# Altium integrated library Motorola Microcontroller 8-Bit.IntLib: 909 symbols (part 6 of 31)
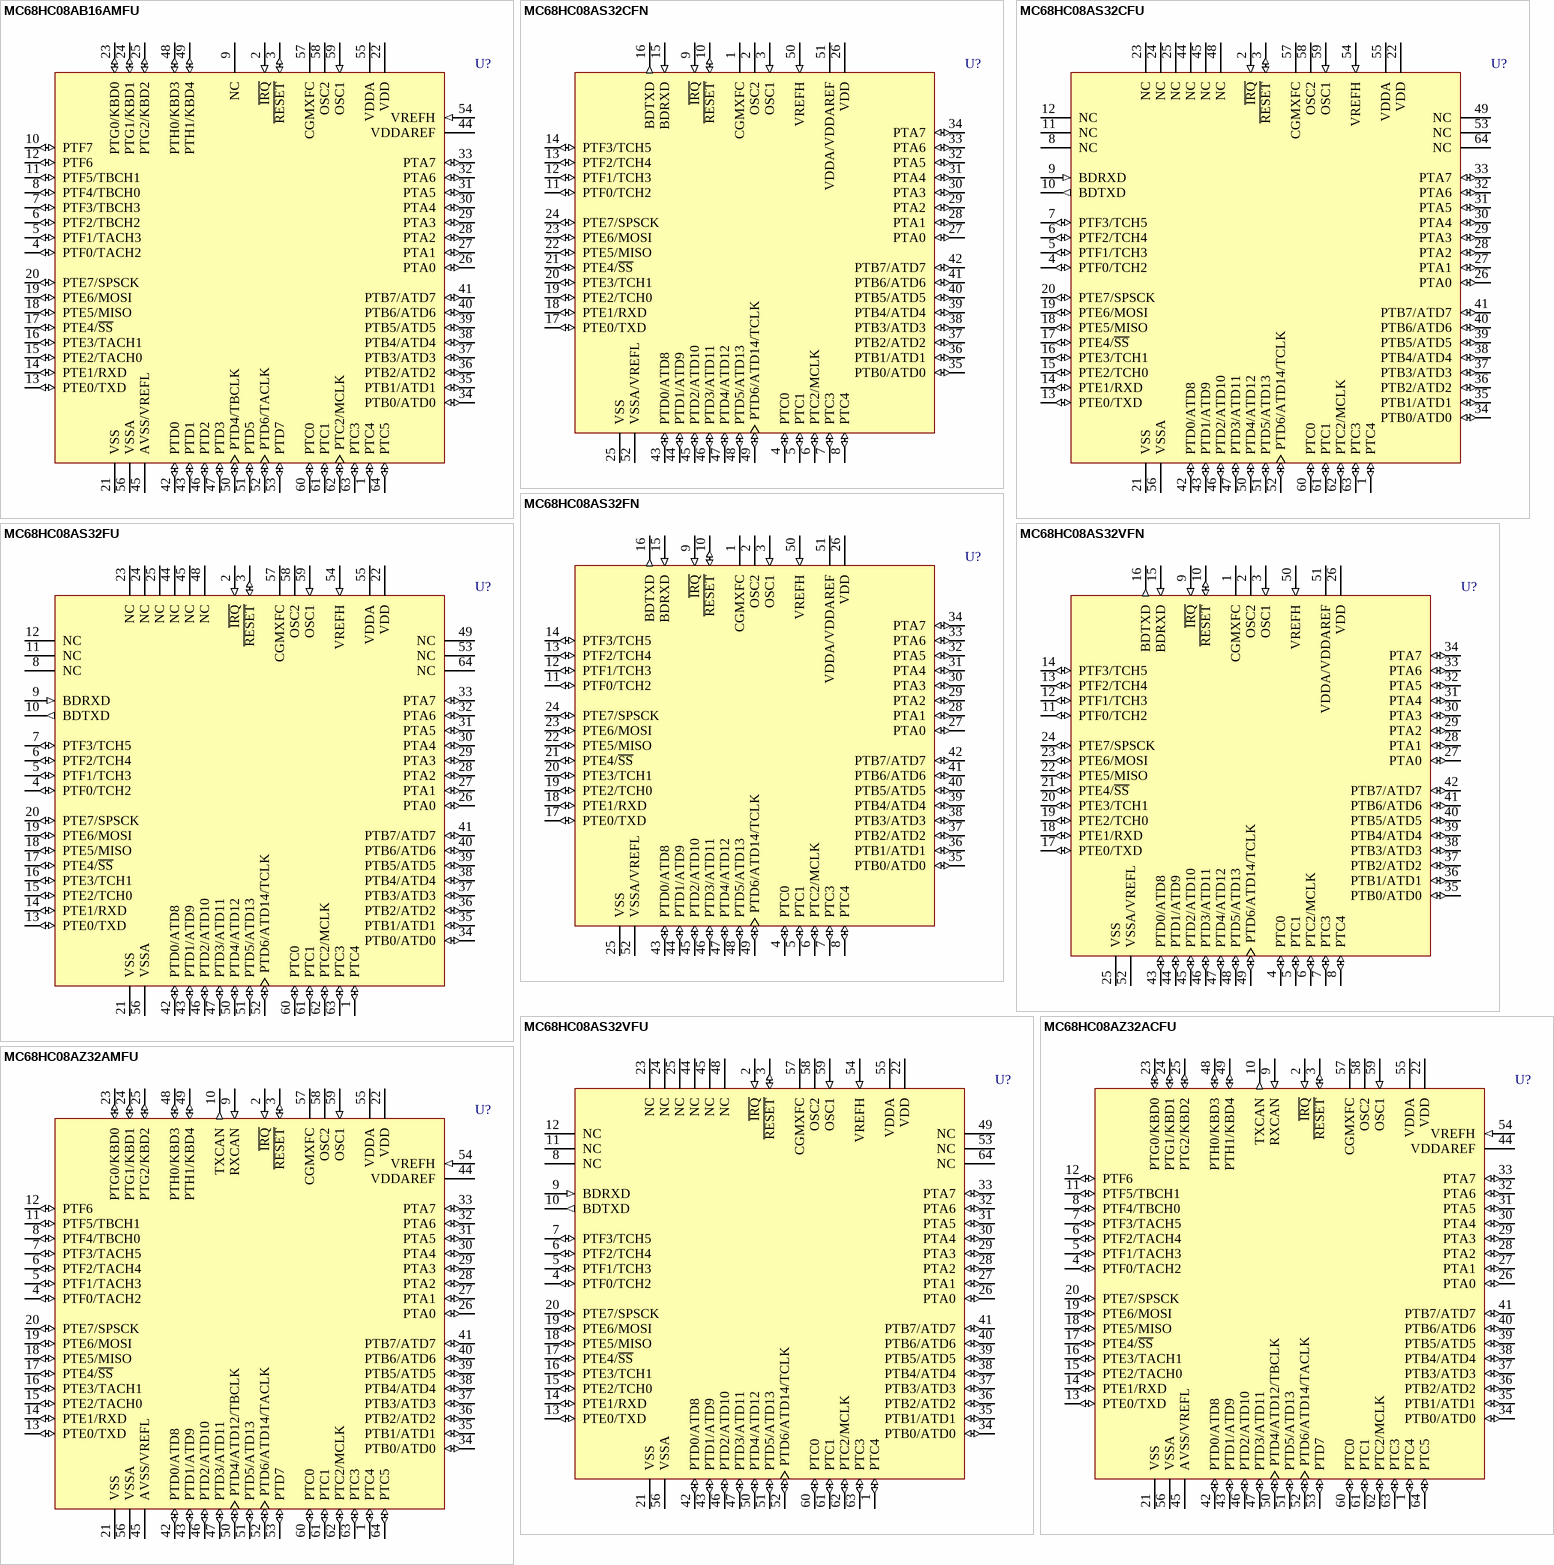
[diagram p118: symbols MC68HC08AB16AMFU to MC68HC08AZ32AMFU]

## MC68HC08AS32FN
designator U?
8-Bit Microcontroller; Published: 17-Jan-2003; LatestRevisionDate: 13-Apr-2006; LatestRevisionNote: IPC-7351 Footprint Added.; DatasheetVersion: Rev 3, 1997; PackageVersion: rev3, 1997; PackageReference: 778-02; Publisher: Altium Limited; PackageDescription: 52-Pin Plastic Leaded Chip Carrier 1.27 mm Pitch; ComponentLink1Description: Manufacturer Link; ComponentLink1URL: http://www.freescale.com/
footprint 778-02_N (Leaded Chip Carrier, 52-Leads, Body 19x19mm, Pitch 1.27mm, IPC Medium Density)
footprint 778-02_L (Leaded Chip Carrier, 52-Leads, Body 19x19mm, Pitch 1.27mm, IPC High Density)
footprint 778-02_M (Leaded Chip Carrier, 52-Leads, Body 19x19mm, Pitch 1.27mm, IPC Low Density)
3D model MC68HC08-778-02 (52-Pin Plastic Leaded Chip Carrier 1.27 mm Pitch)
pins: 1 CGMXFC, 2 OSC2, 3 OSC1 (in), 4 PTC0 (io), 5 PTC1 (io), 6 PTC2/MCLK (io), 7 PTC3 (io), 8 PTC4 (io), 9 ~{IRQ} (in), 10 ~{RESET} (io), 11 PTF0/TCH2 (io), 12 PTF1/TCH3 (io), 13 PTF2/TCH4 (io), 14 PTF3/TCH5 (io), 15 BDRXD (in), 16 BDTXD (out), 17 PTE0/TXD (io), 18 PTE1/RXD (io), 19 PTE2/TCH0 (io), 20 PTE3/TCH1 (io), 21 PTE4/~{SS} (io), 22 PTE5/MISO (io), 23 PTE6/MOSI (io), 24 PTE7/SPSCK (io), 25 VSS (power), 26 VDD (power), 27 PTA0 (io), 28 PTA1 (io), 29 PTA2 (io), 30 PTA3 (io), 31 PTA4 (io), 32 PTA5 (io), 33 PTA6 (io), 34 PTA7 (io), 35 PTB0/ATD0 (io), 36 PTB1/ATD1 (io), 37 PTB2/ATD2 (io), 38 PTB3/ATD3 (io), 39 PTB4/ATD4 (io), 40 PTB5/ATD5 (io), 41 PTB6/ATD6 (io), 42 PTB7/ATD7 (io), 43 PTD0/ATD8 (io), 44 PTD1/ATD9 (io), 45 PTD2/ATD10 (io), 46 PTD3/ATD11 (io), 47 PTD4/ATD12 (io), 48 PTD5/ATD13 (io), 49 PTD6/ATD14/TCLK (io), 50 VREFH (in), 51 VDDA/VDDAREF (power), 52 VSSA/VREFL (power)

## MC68HC08AS32FU
designator U?
8-Bit Microcontroller; Published: 17-Jan-2003; LatestRevisionDate: 13-Apr-2006; LatestRevisionNote: IPC-7351 Footprint Added.; DatasheetVersion: Rev 3, 1997; PackageVersion: rev2, 2000; PackageReference: 840B-01; Publisher: Altium Limited; PackageDescription: 64-Pin Quad Flat Pack 0.8 mm Pitch; Code_IPC: QFP80P1720X1720-64; ComponentLink1Description: Manufacturer Link; ComponentLink1URL: http://www.freescale.com/
footprint 840B-01_N (QFP, 64-Leads, Body 14x14mm, Pitch 0.8mm, IPC Medium Density)
footprint 840B-01_L (QFP, 64-Leads, Body 14x14mm, Pitch 0.8mm, IPC High Density)
footprint 840B-01_M (QFP, 64-Leads, Body 14x14mm, Pitch 0.8mm, IPC Low Density)
3D model MC68HC08-840B-01 (64-Pin Quad Flat Pack 0.8 mm Pitch)
pins: 1 PTC4 (io), 2 ~{IRQ} (in), 3 ~{RESET} (io), 4 PTF0/TCH2 (io), 5 PTF1/TCH3 (io), 6 PTF2/TCH4 (io), 7 PTF3/TCH5 (io), 8 NC, 9 BDRXD (in), 10 BDTXD (out), 11 NC, 12 NC, 13 PTE0/TXD (io), 14 PTE1/RXD (io), 15 PTE2/TCH0 (io), 16 PTE3/TCH1 (io), 17 PTE4/~{SS} (io), 18 PTE5/MISO (io), 19 PTE6/MOSI (io), 20 PTE7/SPSCK (io), 21 VSS (power), 22 VDD (power), 23 NC, 24 NC, 25 NC, 26 PTA0 (io), 27 PTA1 (io), 28 PTA2 (io), 29 PTA3 (io), 30 PTA4 (io), 31 PTA5 (io), 32 PTA6 (io), 33 PTA7 (io), 34 PTB0/ATD0 (io), 35 PTB1/ATD1 (io), 36 PTB2/ATD2 (io), 37 PTB3/ATD3 (io), 38 PTB4/ATD4 (io), 39 PTB5/ATD5 (io), 40 PTB6/ATD6 (io), 41 PTB7/ATD7 (io), 42 PTD0/ATD8 (io), 43 PTD1/ATD9 (io), 44 NC, 45 NC, 46 PTD2/ATD10 (io), 47 PTD3/ATD11 (io), 48 NC, 49 NC, 50 PTD4/ATD12 (io), 51 PTD5/ATD13 (io), 52 PTD6/ATD14/TCLK (io), 53 NC, 54 VREFH (in), 55 VDDA (power), 56 VSSA (power), 57 CGMXFC, 58 OSC2, 59 OSC1 (in), 60 PTC0 (io), 61 PTC1 (io), 62 PTC2/MCLK (io), 63 PTC3 (io), 64 NC

## MC68HC08AS32VFN
designator U?
8-Bit Microcontroller; Published: 17-Jan-2003; LatestRevisionDate: 13-Apr-2006; LatestRevisionNote: IPC-7351 Footprint Added.; DatasheetVersion: Rev 3, 1997; PackageVersion: rev3, 1997; PackageReference: 778-02; Publisher: Altium Limited; PackageDescription: 52-Pin Plastic Leaded Chip Carrier 1.27 mm Pitch; ComponentLink1Description: Manufacturer Link; ComponentLink1URL: http://www.freescale.com/
footprint 778-02_N (Leaded Chip Carrier, 52-Leads, Body 19x19mm, Pitch 1.27mm, IPC Medium Density)
footprint 778-02_L (Leaded Chip Carrier, 52-Leads, Body 19x19mm, Pitch 1.27mm, IPC High Density)
footprint 778-02_M (Leaded Chip Carrier, 52-Leads, Body 19x19mm, Pitch 1.27mm, IPC Low Density)
3D model MC68HC08-778-02 (52-Pin Plastic Leaded Chip Carrier 1.27 mm Pitch)
pins: 1 CGMXFC, 2 OSC2, 3 OSC1 (in), 4 PTC0 (io), 5 PTC1 (io), 6 PTC2/MCLK (io), 7 PTC3 (io), 8 PTC4 (io), 9 ~{IRQ} (in), 10 ~{RESET} (io), 11 PTF0/TCH2 (io), 12 PTF1/TCH3 (io), 13 PTF2/TCH4 (io), 14 PTF3/TCH5 (io), 15 BDRXD (in), 16 BDTXD (out), 17 PTE0/TXD (io), 18 PTE1/RXD (io), 19 PTE2/TCH0 (io), 20 PTE3/TCH1 (io), 21 PTE4/~{SS} (io), 22 PTE5/MISO (io), 23 PTE6/MOSI (io), 24 PTE7/SPSCK (io), 25 VSS (power), 26 VDD (power), 27 PTA0 (io), 28 PTA1 (io), 29 PTA2 (io), 30 PTA3 (io), 31 PTA4 (io), 32 PTA5 (io), 33 PTA6 (io), 34 PTA7 (io), 35 PTB0/ATD0 (io), 36 PTB1/ATD1 (io), 37 PTB2/ATD2 (io), 38 PTB3/ATD3 (io), 39 PTB4/ATD4 (io), 40 PTB5/ATD5 (io), 41 PTB6/ATD6 (io), 42 PTB7/ATD7 (io), 43 PTD0/ATD8 (io), 44 PTD1/ATD9 (io), 45 PTD2/ATD10 (io), 46 PTD3/ATD11 (io), 47 PTD4/ATD12 (io), 48 PTD5/ATD13 (io), 49 PTD6/ATD14/TCLK (io), 50 VREFH (in), 51 VDDA/VDDAREF (power), 52 VSSA/VREFL (power)

## MC68HC08AS32VFU
designator U?
8-Bit Microcontroller; Published: 17-Jan-2003; LatestRevisionDate: 13-Apr-2006; LatestRevisionNote: IPC-7351 Footprint Added.; DatasheetVersion: Rev 3, 1997; PackageVersion: rev2, 2000; PackageReference: 840B-01; Publisher: Altium Limited; PackageDescription: 64-Pin Quad Flat Pack 0.8 mm Pitch; Code_IPC: QFP80P1720X1720-64; ComponentLink1Description: Manufacturer Link; ComponentLink1URL: http://www.freescale.com/
footprint 840B-01_N (QFP, 64-Leads, Body 14x14mm, Pitch 0.8mm, IPC Medium Density)
footprint 840B-01_L (QFP, 64-Leads, Body 14x14mm, Pitch 0.8mm, IPC High Density)
footprint 840B-01_M (QFP, 64-Leads, Body 14x14mm, Pitch 0.8mm, IPC Low Density)
3D model MC68HC08-840B-01 (64-Pin Quad Flat Pack 0.8 mm Pitch)
pins: 1 PTC4 (io), 2 ~{IRQ} (in), 3 ~{RESET} (io), 4 PTF0/TCH2 (io), 5 PTF1/TCH3 (io), 6 PTF2/TCH4 (io), 7 PTF3/TCH5 (io), 8 NC, 9 BDRXD (in), 10 BDTXD (out), 11 NC, 12 NC, 13 PTE0/TXD (io), 14 PTE1/RXD (io), 15 PTE2/TCH0 (io), 16 PTE3/TCH1 (io), 17 PTE4/~{SS} (io), 18 PTE5/MISO (io), 19 PTE6/MOSI (io), 20 PTE7/SPSCK (io), 21 VSS (power), 22 VDD (power), 23 NC, 24 NC, 25 NC, 26 PTA0 (io), 27 PTA1 (io), 28 PTA2 (io), 29 PTA3 (io), 30 PTA4 (io), 31 PTA5 (io), 32 PTA6 (io), 33 PTA7 (io), 34 PTB0/ATD0 (io), 35 PTB1/ATD1 (io), 36 PTB2/ATD2 (io), 37 PTB3/ATD3 (io), 38 PTB4/ATD4 (io), 39 PTB5/ATD5 (io), 40 PTB6/ATD6 (io), 41 PTB7/ATD7 (io), 42 PTD0/ATD8 (io), 43 PTD1/ATD9 (io), 44 NC, 45 NC, 46 PTD2/ATD10 (io), 47 PTD3/ATD11 (io), 48 NC, 49 NC, 50 PTD4/ATD12 (io), 51 PTD5/ATD13 (io), 52 PTD6/ATD14/TCLK (io), 53 NC, 54 VREFH (in), 55 VDDA (power), 56 VSSA (power), 57 CGMXFC, 58 OSC2, 59 OSC1 (in), 60 PTC0 (io), 61 PTC1 (io), 62 PTC2/MCLK (io), 63 PTC3 (io), 64 NC

## MC68HC08AZ32ACFU
designator U?
8-Bit Microcontroller; Published: 17-Jan-2003; LatestRevisionDate: 13-Apr-2006; LatestRevisionNote: IPC-7351 Footprint Added.; DatasheetVersion: Rev 1, 2001; PackageVersion: rev2, 2000; PackageReference: 840B-01; Publisher: Altium Limited; PackageDescription: 64-Pin Quad Flat Pack 0.8 mm Pitch; Code_IPC: QFP80P1720X1720-64; ComponentLink1Description: Manufacturer Link; ComponentLink1URL: http://www.freescale.com/
footprint 840B-01_N (QFP, 64-Leads, Body 14x14mm, Pitch 0.8mm, IPC Medium Density)
footprint 840B-01_L (QFP, 64-Leads, Body 14x14mm, Pitch 0.8mm, IPC High Density)
footprint 840B-01_M (QFP, 64-Leads, Body 14x14mm, Pitch 0.8mm, IPC Low Density)
3D model MC68HC08-840B-01 (64-Pin Quad Flat Pack 0.8 mm Pitch)
pins: 1 PTC4 (io), 2 ~{IRQ} (in), 3 ~{RESET} (io), 4 PTF0/TACH2 (io), 5 PTF1/TACH3 (io), 6 PTF2/TACH4 (io), 7 PTF3/TACH5 (io), 8 PTF4/TBCH0 (io), 9 RXCAN (in), 10 TXCAN (out), 11 PTF5/TBCH1 (io), 12 PTF6 (io), 13 PTE0/TXD (io), 14 PTE1/RXD (io), 15 PTE2/TACH0 (io), 16 PTE3/TACH1 (io), 17 PTE4/~{SS} (io), 18 PTE5/MISO (io), 19 PTE6/MOSI (io), 20 PTE7/SPSCK (io), 21 VSS (power), 22 VDD (power), 23 PTG0/KBD0 (io), 24 PTG1/KBD1 (io), 25 PTG2/KBD2 (io), 26 PTA0 (io), 27 PTA1 (io), 28 PTA2 (io), 29 PTA3 (io), 30 PTA4 (io), 31 PTA5 (io), 32 PTA6 (io), 33 PTA7 (io), 34 PTB0/ATD0 (io), 35 PTB1/ATD1 (io), 36 PTB2/ATD2 (io), 37 PTB3/ATD3 (io), 38 PTB4/ATD4 (io), 39 PTB5/ATD5 (io), 40 PTB6/ATD6 (io), 41 PTB7/ATD7 (io), 42 PTD0/ATD8 (io), 43 PTD1/ATD9 (io), 44 VDDAREF (power), 45 AVSS/VREFL (power), 46 PTD2/ATD10 (io), 47 PTD3/ATD11 (io), 48 PTH0/KBD3 (io), 49 PTH1/KBD4 (io), 50 PTD4/ATD12/TBCLK (io), 51 PTD5/ATD13 (io), 52 PTD6/ATD14/TACLK (io), 53 PTD7 (io), 54 VREFH (in), 55 VDDA (power), 56 VSSA (power), 57 CGMXFC, 58 OSC2, 59 OSC1 (in), 60 PTC0 (io), 61 PTC1 (io), 62 PTC2/MCLK (io), 63 PTC3 (io), 64 PTC5 (io)

## MC68HC08AZ32AMFU
designator U?
8-Bit Microcontroller; Published: 17-Jan-2003; LatestRevisionDate: 13-Apr-2006; LatestRevisionNote: IPC-7351 Footprint Added.; DatasheetVersion: Rev 1, 2001; PackageVersion: rev2, 2000; PackageReference: 840B-01; Publisher: Altium Limited; PackageDescription: 64-Pin Quad Flat Pack 0.8 mm Pitch; Code_IPC: QFP80P1720X1720-64; ComponentLink1Description: Manufacturer Link; ComponentLink1URL: http://www.freescale.com/
footprint 840B-01_N (QFP, 64-Leads, Body 14x14mm, Pitch 0.8mm, IPC Medium Density)
footprint 840B-01_L (QFP, 64-Leads, Body 14x14mm, Pitch 0.8mm, IPC High Density)
footprint 840B-01_M (QFP, 64-Leads, Body 14x14mm, Pitch 0.8mm, IPC Low Density)
3D model MC68HC08-840B-01 (64-Pin Quad Flat Pack 0.8 mm Pitch)
pins: 1 PTC4 (io), 2 ~{IRQ} (in), 3 ~{RESET} (io), 4 PTF0/TACH2 (io), 5 PTF1/TACH3 (io), 6 PTF2/TACH4 (io), 7 PTF3/TACH5 (io), 8 PTF4/TBCH0 (io), 9 RXCAN (in), 10 TXCAN (out), 11 PTF5/TBCH1 (io), 12 PTF6 (io), 13 PTE0/TXD (io), 14 PTE1/RXD (io), 15 PTE2/TACH0 (io), 16 PTE3/TACH1 (io), 17 PTE4/~{SS} (io), 18 PTE5/MISO (io), 19 PTE6/MOSI (io), 20 PTE7/SPSCK (io), 21 VSS (power), 22 VDD (power), 23 PTG0/KBD0 (io), 24 PTG1/KBD1 (io), 25 PTG2/KBD2 (io), 26 PTA0 (io), 27 PTA1 (io), 28 PTA2 (io), 29 PTA3 (io), 30 PTA4 (io), 31 PTA5 (io), 32 PTA6 (io), 33 PTA7 (io), 34 PTB0/ATD0 (io), 35 PTB1/ATD1 (io), 36 PTB2/ATD2 (io), 37 PTB3/ATD3 (io), 38 PTB4/ATD4 (io), 39 PTB5/ATD5 (io), 40 PTB6/ATD6 (io), 41 PTB7/ATD7 (io), 42 PTD0/ATD8 (io), 43 PTD1/ATD9 (io), 44 VDDAREF (power), 45 AVSS/VREFL (power), 46 PTD2/ATD10 (io), 47 PTD3/ATD11 (io), 48 PTH0/KBD3 (io), 49 PTH1/KBD4 (io), 50 PTD4/ATD12/TBCLK (io), 51 PTD5/ATD13 (io), 52 PTD6/ATD14/TACLK (io), 53 PTD7 (io), 54 VREFH (in), 55 VDDA (power), 56 VSSA (power), 57 CGMXFC, 58 OSC2, 59 OSC1 (in), 60 PTC0 (io), 61 PTC1 (io), 62 PTC2/MCLK (io), 63 PTC3 (io), 64 PTC5 (io)

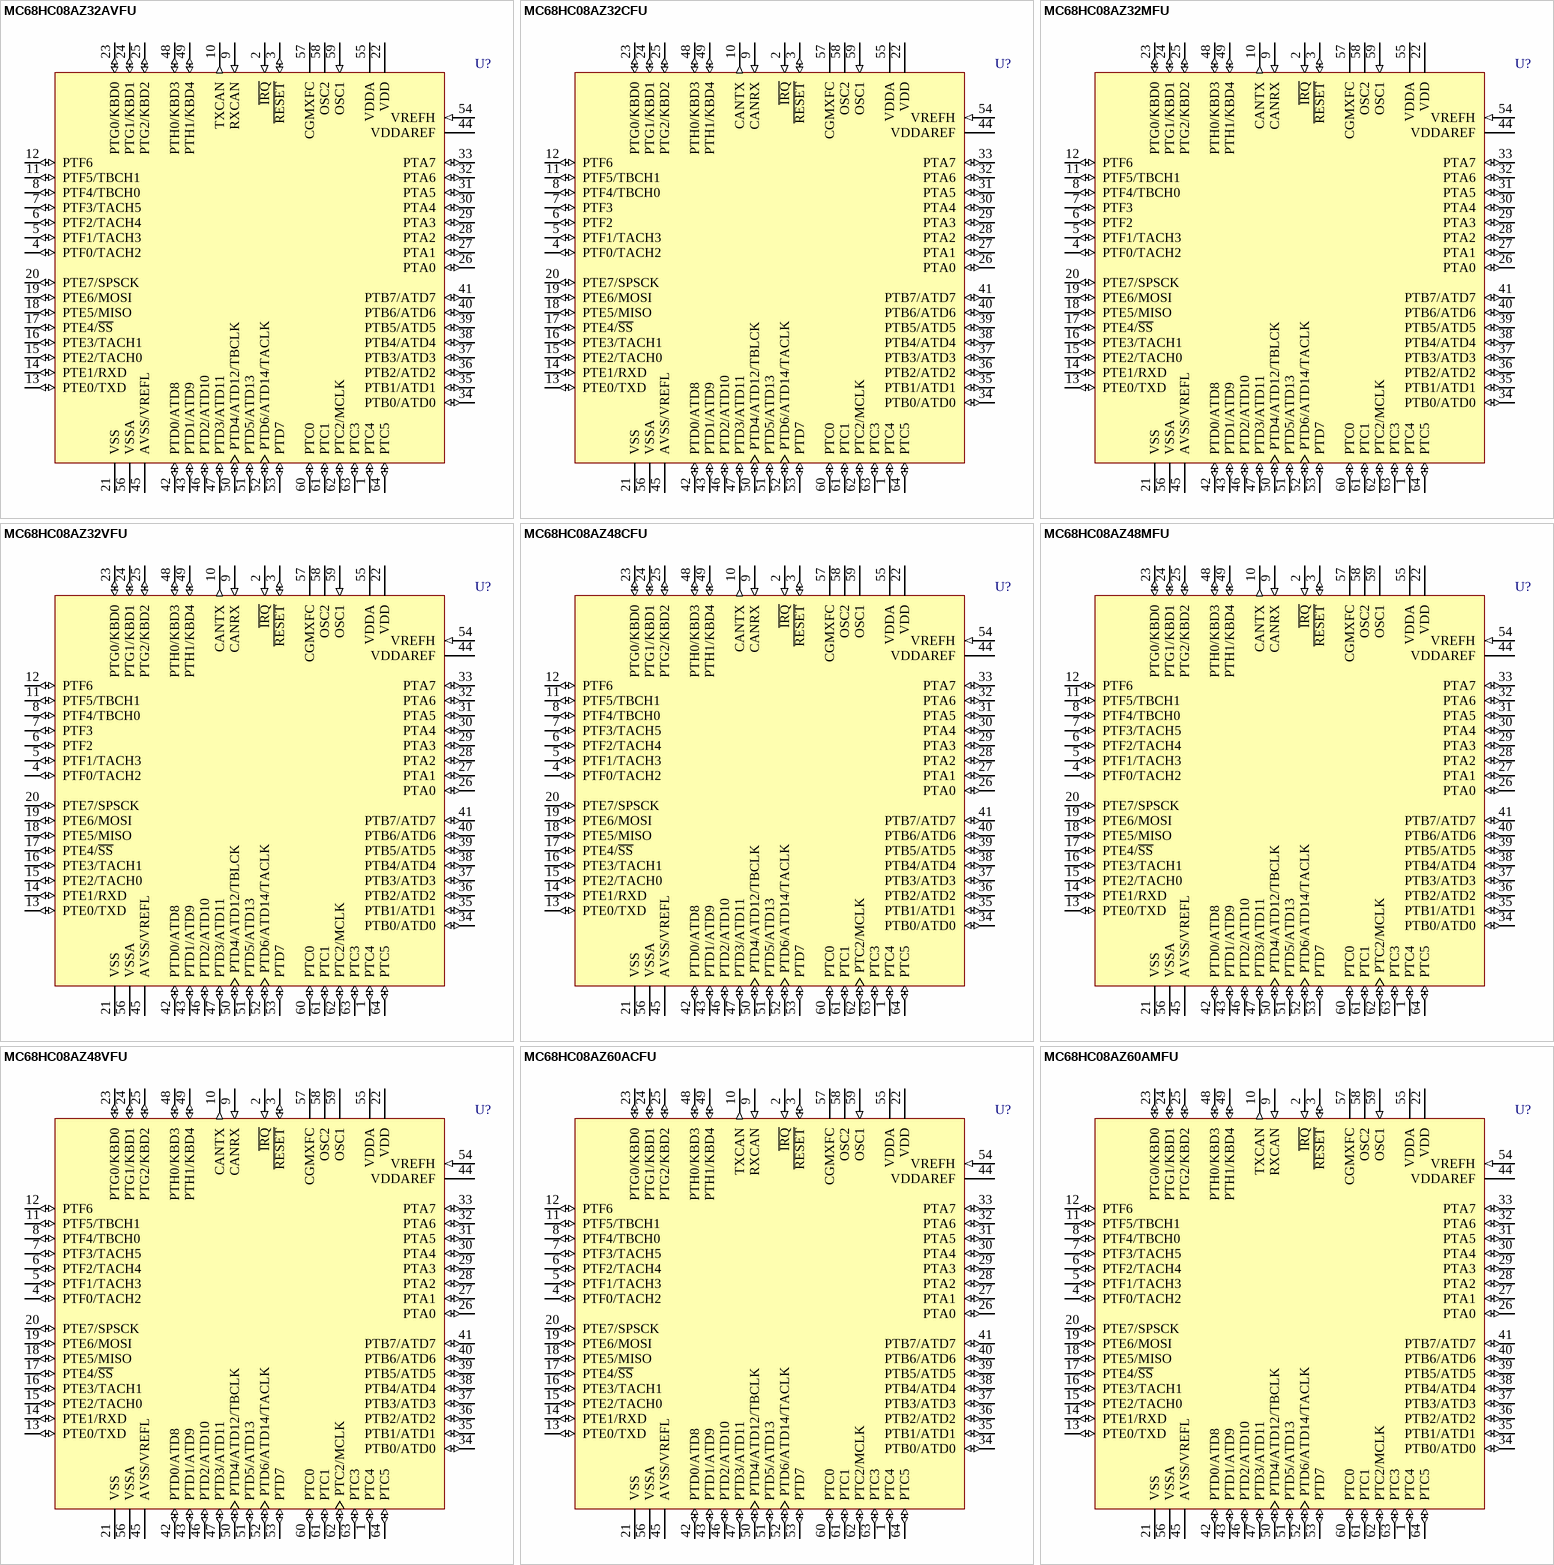
[diagram p15: symbols MC68HC08AZ32AVFU to MC68HC08AZ60AMFU]

## MC68HC08AZ32AVFU
designator U?
8-Bit Microcontroller; Published: 17-Jan-2003; LatestRevisionDate: 13-Apr-2006; LatestRevisionNote: IPC-7351 Footprint Added.; DatasheetVersion: Rev 1, 2001; PackageVersion: rev2, 2000; PackageReference: 840B-01; Publisher: Altium Limited; PackageDescription: 64-Pin Quad Flat Pack 0.8 mm Pitch; Code_IPC: QFP80P1720X1720-64; ComponentLink1Description: Manufacturer Link; ComponentLink1URL: http://www.freescale.com/
footprint 840B-01_N (QFP, 64-Leads, Body 14x14mm, Pitch 0.8mm, IPC Medium Density)
footprint 840B-01_L (QFP, 64-Leads, Body 14x14mm, Pitch 0.8mm, IPC High Density)
footprint 840B-01_M (QFP, 64-Leads, Body 14x14mm, Pitch 0.8mm, IPC Low Density)
3D model MC68HC08-840B-01 (64-Pin Quad Flat Pack 0.8 mm Pitch)
pins: 1 PTC4 (io), 2 ~{IRQ} (in), 3 ~{RESET} (io), 4 PTF0/TACH2 (io), 5 PTF1/TACH3 (io), 6 PTF2/TACH4 (io), 7 PTF3/TACH5 (io), 8 PTF4/TBCH0 (io), 9 RXCAN (in), 10 TXCAN (out), 11 PTF5/TBCH1 (io), 12 PTF6 (io), 13 PTE0/TXD (io), 14 PTE1/RXD (io), 15 PTE2/TACH0 (io), 16 PTE3/TACH1 (io), 17 PTE4/~{SS} (io), 18 PTE5/MISO (io), 19 PTE6/MOSI (io), 20 PTE7/SPSCK (io), 21 VSS (power), 22 VDD (power), 23 PTG0/KBD0 (io), 24 PTG1/KBD1 (io), 25 PTG2/KBD2 (io), 26 PTA0 (io), 27 PTA1 (io), 28 PTA2 (io), 29 PTA3 (io), 30 PTA4 (io), 31 PTA5 (io), 32 PTA6 (io), 33 PTA7 (io), 34 PTB0/ATD0 (io), 35 PTB1/ATD1 (io), 36 PTB2/ATD2 (io), 37 PTB3/ATD3 (io), 38 PTB4/ATD4 (io), 39 PTB5/ATD5 (io), 40 PTB6/ATD6 (io), 41 PTB7/ATD7 (io), 42 PTD0/ATD8 (io), 43 PTD1/ATD9 (io), 44 VDDAREF (power), 45 AVSS/VREFL (power), 46 PTD2/ATD10 (io), 47 PTD3/ATD11 (io), 48 PTH0/KBD3 (io), 49 PTH1/KBD4 (io), 50 PTD4/ATD12/TBCLK (io), 51 PTD5/ATD13 (io), 52 PTD6/ATD14/TACLK (io), 53 PTD7 (io), 54 VREFH (in), 55 VDDA (power), 56 VSSA (power), 57 CGMXFC, 58 OSC2, 59 OSC1 (in), 60 PTC0 (io), 61 PTC1 (io), 62 PTC2/MCLK (io), 63 PTC3 (io), 64 PTC5 (io)

## MC68HC08AZ32CFU
designator U?
8-Bit Microcontroller; Published: 17-Jan-2003; LatestRevisionDate: 13-Apr-2006; LatestRevisionNote: IPC-7351 Footprint Added.; DatasheetVersion: 31-Jan-2000; PackageVersion: rev2, 2000; PackageReference: 840B-01; Publisher: Altium Limited; PackageDescription: 64-Pin Quad Flat Pack 0.8 mm Pitch; Code_IPC: QFP80P1720X1720-64; ComponentLink1Description: Manufacturer Link; ComponentLink1URL: http://www.freescale.com/; ComponentLink2Description: Datasheet; ComponentLink2URL: http://www.freescale.com/files/microcontrollers/doc/user_guide/MC68HC08AZ32.pdf
footprint 840B-01_N (QFP, 64-Leads, Body 14x14mm, Pitch 0.8mm, IPC Medium Density)
footprint 840B-01_L (QFP, 64-Leads, Body 14x14mm, Pitch 0.8mm, IPC High Density)
footprint 840B-01_M (QFP, 64-Leads, Body 14x14mm, Pitch 0.8mm, IPC Low Density)
3D model MC68HC08-840B-01 (64-Pin Quad Flat Pack 0.8 mm Pitch)
pins: 1 PTC4 (io), 2 ~{IRQ} (in), 3 ~{RESET} (io), 4 PTF0/TACH2 (io), 5 PTF1/TACH3 (io), 6 PTF2 (io), 7 PTF3 (io), 8 PTF4/TBCH0 (io), 9 CANRX (in), 10 CANTX (out), 11 PTF5/TBCH1 (io), 12 PTF6 (io), 13 PTE0/TXD (io), 14 PTE1/RXD (io), 15 PTE2/TACH0 (io), 16 PTE3/TACH1 (io), 17 PTE4/~{SS} (io), 18 PTE5/MISO (io), 19 PTE6/MOSI (io), 20 PTE7/SPSCK (io), 21 VSS (power), 22 VDD (power), 23 PTG0/KBD0 (io), 24 PTG1/KBD1 (io), 25 PTG2/KBD2 (io), 26 PTA0 (io), 27 PTA1 (io), 28 PTA2 (io), 29 PTA3 (io), 30 PTA4 (io), 31 PTA5 (io), 32 PTA6 (io), 33 PTA7 (io), 34 PTB0/ATD0 (io), 35 PTB1/ATD1 (io), 36 PTB2/ATD2 (io), 37 PTB3/ATD3 (io), 38 PTB4/ATD4 (io), 39 PTB5/ATD5 (io), 40 PTB6/ATD6 (io), 41 PTB7/ATD7 (io), 42 PTD0/ATD8 (io), 43 PTD1/ATD9 (io), 44 VDDAREF (power), 45 AVSS/VREFL (power), 46 PTD2/ATD10 (io), 47 PTD3/ATD11 (io), 48 PTH0/KBD3 (io), 49 PTH1/KBD4 (io), 50 PTD4/ATD12/TBLCK (io), 51 PTD5/ATD13 (io), 52 PTD6/ATD14/TACLK (io), 53 PTD7 (io), 54 VREFH (in), 55 VDDA (power), 56 VSSA (power), 57 CGMXFC, 58 OSC2, 59 OSC1 (in), 60 PTC0 (io), 61 PTC1 (io), 62 PTC2/MCLK (io), 63 PTC3 (io), 64 PTC5 (io)

## MC68HC08AZ32MFU
designator U?
8-Bit Microcontroller; Published: 17-Jan-2003; LatestRevisionDate: 13-Apr-2006; LatestRevisionNote: IPC-7351 Footprint Added.; DatasheetVersion: 31-Jan-2000; PackageVersion: rev2, 2000; PackageReference: 840B-01; Publisher: Altium Limited; PackageDescription: 64-Pin Quad Flat Pack 0.8 mm Pitch; Code_IPC: QFP80P1720X1720-64; ComponentLink1Description: Manufacturer Link; ComponentLink1URL: http://www.freescale.com/; ComponentLink2Description: Datasheet; ComponentLink2URL: http://www.freescale.com/files/microcontrollers/doc/user_guide/MC68HC08AZ32.pdf
footprint 840B-01_N (QFP, 64-Leads, Body 14x14mm, Pitch 0.8mm, IPC Medium Density)
footprint 840B-01_L (QFP, 64-Leads, Body 14x14mm, Pitch 0.8mm, IPC High Density)
footprint 840B-01_M (QFP, 64-Leads, Body 14x14mm, Pitch 0.8mm, IPC Low Density)
3D model MC68HC08-840B-01 (64-Pin Quad Flat Pack 0.8 mm Pitch)
pins: 1 PTC4 (io), 2 ~{IRQ} (in), 3 ~{RESET} (io), 4 PTF0/TACH2 (io), 5 PTF1/TACH3 (io), 6 PTF2 (io), 7 PTF3 (io), 8 PTF4/TBCH0 (io), 9 CANRX (in), 10 CANTX (out), 11 PTF5/TBCH1 (io), 12 PTF6 (io), 13 PTE0/TXD (io), 14 PTE1/RXD (io), 15 PTE2/TACH0 (io), 16 PTE3/TACH1 (io), 17 PTE4/~{SS} (io), 18 PTE5/MISO (io), 19 PTE6/MOSI (io), 20 PTE7/SPSCK (io), 21 VSS (power), 22 VDD (power), 23 PTG0/KBD0 (io), 24 PTG1/KBD1 (io), 25 PTG2/KBD2 (io), 26 PTA0 (io), 27 PTA1 (io), 28 PTA2 (io), 29 PTA3 (io), 30 PTA4 (io), 31 PTA5 (io), 32 PTA6 (io), 33 PTA7 (io), 34 PTB0/ATD0 (io), 35 PTB1/ATD1 (io), 36 PTB2/ATD2 (io), 37 PTB3/ATD3 (io), 38 PTB4/ATD4 (io), 39 PTB5/ATD5 (io), 40 PTB6/ATD6 (io), 41 PTB7/ATD7 (io), 42 PTD0/ATD8 (io), 43 PTD1/ATD9 (io), 44 VDDAREF (power), 45 AVSS/VREFL (power), 46 PTD2/ATD10 (io), 47 PTD3/ATD11 (io), 48 PTH0/KBD3 (io), 49 PTH1/KBD4 (io), 50 PTD4/ATD12/TBLCK (io), 51 PTD5/ATD13 (io), 52 PTD6/ATD14/TACLK (io), 53 PTD7 (io), 54 VREFH (in), 55 VDDA (power), 56 VSSA (power), 57 CGMXFC, 58 OSC2, 59 OSC1 (in), 60 PTC0 (io), 61 PTC1 (io), 62 PTC2/MCLK (io), 63 PTC3 (io), 64 PTC5 (io)

## MC68HC08AZ32VFU
designator U?
8-Bit Microcontroller; Published: 17-Jan-2003; LatestRevisionDate: 13-Apr-2006; LatestRevisionNote: IPC-7351 Footprint Added.; DatasheetVersion: 31-Jan-2000; PackageVersion: rev2, 2000; PackageReference: 840B-01; Publisher: Altium Limited; PackageDescription: 64-Pin Quad Flat Pack 0.8 mm Pitch; Code_IPC: QFP80P1720X1720-64; ComponentLink1Description: Manufacturer Link; ComponentLink1URL: http://www.freescale.com/; ComponentLink2Description: Datasheet; ComponentLink2URL: http://www.freescale.com/files/microcontrollers/doc/user_guide/MC68HC08AZ32.pdf
footprint 840B-01_N (QFP, 64-Leads, Body 14x14mm, Pitch 0.8mm, IPC Medium Density)
footprint 840B-01_L (QFP, 64-Leads, Body 14x14mm, Pitch 0.8mm, IPC High Density)
footprint 840B-01_M (QFP, 64-Leads, Body 14x14mm, Pitch 0.8mm, IPC Low Density)
3D model MC68HC08-840B-01 (64-Pin Quad Flat Pack 0.8 mm Pitch)
pins: 1 PTC4 (io), 2 ~{IRQ} (in), 3 ~{RESET} (io), 4 PTF0/TACH2 (io), 5 PTF1/TACH3 (io), 6 PTF2 (io), 7 PTF3 (io), 8 PTF4/TBCH0 (io), 9 CANRX (in), 10 CANTX (out), 11 PTF5/TBCH1 (io), 12 PTF6 (io), 13 PTE0/TXD (io), 14 PTE1/RXD (io), 15 PTE2/TACH0 (io), 16 PTE3/TACH1 (io), 17 PTE4/~{SS} (io), 18 PTE5/MISO (io), 19 PTE6/MOSI (io), 20 PTE7/SPSCK (io), 21 VSS (power), 22 VDD (power), 23 PTG0/KBD0 (io), 24 PTG1/KBD1 (io), 25 PTG2/KBD2 (io), 26 PTA0 (io), 27 PTA1 (io), 28 PTA2 (io), 29 PTA3 (io), 30 PTA4 (io), 31 PTA5 (io), 32 PTA6 (io), 33 PTA7 (io), 34 PTB0/ATD0 (io), 35 PTB1/ATD1 (io), 36 PTB2/ATD2 (io), 37 PTB3/ATD3 (io), 38 PTB4/ATD4 (io), 39 PTB5/ATD5 (io), 40 PTB6/ATD6 (io), 41 PTB7/ATD7 (io), 42 PTD0/ATD8 (io), 43 PTD1/ATD9 (io), 44 VDDAREF (power), 45 AVSS/VREFL (power), 46 PTD2/ATD10 (io), 47 PTD3/ATD11 (io), 48 PTH0/KBD3 (io), 49 PTH1/KBD4 (io), 50 PTD4/ATD12/TBLCK (io), 51 PTD5/ATD13 (io), 52 PTD6/ATD14/TACLK (io), 53 PTD7 (io), 54 VREFH (in), 55 VDDA (power), 56 VSSA (power), 57 CGMXFC, 58 OSC2, 59 OSC1 (in), 60 PTC0 (io), 61 PTC1 (io), 62 PTC2/MCLK (io), 63 PTC3 (io), 64 PTC5 (io)

## MC68HC08AZ48CFU
designator U?
8-Bit Microcontroller; Published: 17-Jan-2003; LatestRevisionDate: 13-Apr-2006; LatestRevisionNote: IPC-7351 Footprint Added.; DatasheetVersion: Rev 1, Mar-2000; PackageVersion: rev2, 2000; PackageReference: 840B-01; Publisher: Altium Limited; PackageDescription: 64-Pin Quad Flat Pack 0.8 mm Pitch; Code_IPC: QFP80P1720X1720-64; ComponentLink1Description: Manufacturer Link; ComponentLink1URL: http://www.freescale.com/
footprint 840B-01_N (QFP, 64-Leads, Body 14x14mm, Pitch 0.8mm, IPC Medium Density)
footprint 840B-01_L (QFP, 64-Leads, Body 14x14mm, Pitch 0.8mm, IPC High Density)
footprint 840B-01_M (QFP, 64-Leads, Body 14x14mm, Pitch 0.8mm, IPC Low Density)
3D model MC68HC08-840B-01 (64-Pin Quad Flat Pack 0.8 mm Pitch)
pins: 1 PTC4 (io), 2 ~{IRQ} (in), 3 ~{RESET} (io), 4 PTF0/TACH2 (io), 5 PTF1/TACH3 (io), 6 PTF2/TACH4 (io), 7 PTF3/TACH5 (io), 8 PTF4/TBCH0 (io), 9 CANRX (in), 10 CANTX (out), 11 PTF5/TBCH1 (io), 12 PTF6 (io), 13 PTE0/TXD (io), 14 PTE1/RXD (io), 15 PTE2/TACH0 (io), 16 PTE3/TACH1 (io), 17 PTE4/~{SS} (io), 18 PTE5/MISO (io), 19 PTE6/MOSI (io), 20 PTE7/SPSCK (io), 21 VSS (power), 22 VDD (power), 23 PTG0/KBD0 (io), 24 PTG1/KBD1 (io), 25 PTG2/KBD2 (io), 26 PTA0 (io), 27 PTA1 (io), 28 PTA2 (io), 29 PTA3 (io), 30 PTA4 (io), 31 PTA5 (io), 32 PTA6 (io), 33 PTA7 (io), 34 PTB0/ATD0 (io), 35 PTB1/ATD1 (io), 36 PTB2/ATD2 (io), 37 PTB3/ATD3 (io), 38 PTB4/ATD4 (io), 39 PTB5/ATD5 (io), 40 PTB6/ATD6 (io), 41 PTB7/ATD7 (io), 42 PTD0/ATD8 (io), 43 PTD1/ATD9 (io), 44 VDDAREF (power), 45 AVSS/VREFL (power), 46 PTD2/ATD10 (io), 47 PTD3/ATD11 (io), 48 PTH0/KBD3 (io), 49 PTH1/KBD4 (io), 50 PTD4/ATD12/TBCLK (io), 51 PTD5/ATD13 (io), 52 PTD6/ATD14/TACLK (io), 53 PTD7 (io), 54 VREFH (in), 55 VDDA (power), 56 VSSA (power), 57 CGMXFC, 58 OSC2, 59 OSC1, 60 PTC0 (io), 61 PTC1 (io), 62 PTC2/MCLK (io), 63 PTC3 (io), 64 PTC5 (io)

## MC68HC08AZ48MFU
designator U?
8-Bit Microcontroller; Published: 17-Jan-2003; LatestRevisionDate: 13-Apr-2006; LatestRevisionNote: IPC-7351 Footprint Added.; DatasheetVersion: Rev 1, Mar-2000; PackageVersion: rev2, 2000; PackageReference: 840B-01; Publisher: Altium Limited; PackageDescription: 64-Pin Quad Flat Pack 0.8 mm Pitch; Code_IPC: QFP80P1720X1720-64; ComponentLink1Description: Manufacturer Link; ComponentLink1URL: http://www.freescale.com/
footprint 840B-01_N (QFP, 64-Leads, Body 14x14mm, Pitch 0.8mm, IPC Medium Density)
footprint 840B-01_L (QFP, 64-Leads, Body 14x14mm, Pitch 0.8mm, IPC High Density)
footprint 840B-01_M (QFP, 64-Leads, Body 14x14mm, Pitch 0.8mm, IPC Low Density)
3D model MC68HC08-840B-01 (64-Pin Quad Flat Pack 0.8 mm Pitch)
pins: 1 PTC4 (io), 2 ~{IRQ} (in), 3 ~{RESET} (io), 4 PTF0/TACH2 (io), 5 PTF1/TACH3 (io), 6 PTF2/TACH4 (io), 7 PTF3/TACH5 (io), 8 PTF4/TBCH0 (io), 9 CANRX (in), 10 CANTX (out), 11 PTF5/TBCH1 (io), 12 PTF6 (io), 13 PTE0/TXD (io), 14 PTE1/RXD (io), 15 PTE2/TACH0 (io), 16 PTE3/TACH1 (io), 17 PTE4/~{SS} (io), 18 PTE5/MISO (io), 19 PTE6/MOSI (io), 20 PTE7/SPSCK (io), 21 VSS (power), 22 VDD (power), 23 PTG0/KBD0 (io), 24 PTG1/KBD1 (io), 25 PTG2/KBD2 (io), 26 PTA0 (io), 27 PTA1 (io), 28 PTA2 (io), 29 PTA3 (io), 30 PTA4 (io), 31 PTA5 (io), 32 PTA6 (io), 33 PTA7 (io), 34 PTB0/ATD0 (io), 35 PTB1/ATD1 (io), 36 PTB2/ATD2 (io), 37 PTB3/ATD3 (io), 38 PTB4/ATD4 (io), 39 PTB5/ATD5 (io), 40 PTB6/ATD6 (io), 41 PTB7/ATD7 (io), 42 PTD0/ATD8 (io), 43 PTD1/ATD9 (io), 44 VDDAREF (power), 45 AVSS/VREFL (power), 46 PTD2/ATD10 (io), 47 PTD3/ATD11 (io), 48 PTH0/KBD3 (io), 49 PTH1/KBD4 (io), 50 PTD4/ATD12/TBCLK (io), 51 PTD5/ATD13 (io), 52 PTD6/ATD14/TACLK (io), 53 PTD7 (io), 54 VREFH (in), 55 VDDA (power), 56 VSSA (power), 57 CGMXFC, 58 OSC2, 59 OSC1, 60 PTC0 (io), 61 PTC1 (io), 62 PTC2/MCLK (io), 63 PTC3 (io), 64 PTC5 (io)

## MC68HC08AZ48VFU
designator U?
8-Bit Microcontroller; Published: 17-Jan-2003; LatestRevisionDate: 13-Apr-2006; LatestRevisionNote: IPC-7351 Footprint Added.; DatasheetVersion: Rev 1, Mar-2000; PackageVersion: rev2, 2000; PackageReference: 840B-01; Publisher: Altium Limited; PackageDescription: 64-Pin Quad Flat Pack 0.8 mm Pitch; Code_IPC: QFP80P1720X1720-64; ComponentLink1Description: Manufacturer Link; ComponentLink1URL: http://www.freescale.com/
footprint 840B-01_N (QFP, 64-Leads, Body 14x14mm, Pitch 0.8mm, IPC Medium Density)
footprint 840B-01_L (QFP, 64-Leads, Body 14x14mm, Pitch 0.8mm, IPC High Density)
footprint 840B-01_M (QFP, 64-Leads, Body 14x14mm, Pitch 0.8mm, IPC Low Density)
3D model MC68HC08-840B-01 (64-Pin Quad Flat Pack 0.8 mm Pitch)
pins: 1 PTC4 (io), 2 ~{IRQ} (in), 3 ~{RESET} (io), 4 PTF0/TACH2 (io), 5 PTF1/TACH3 (io), 6 PTF2/TACH4 (io), 7 PTF3/TACH5 (io), 8 PTF4/TBCH0 (io), 9 CANRX (in), 10 CANTX (out), 11 PTF5/TBCH1 (io), 12 PTF6 (io), 13 PTE0/TXD (io), 14 PTE1/RXD (io), 15 PTE2/TACH0 (io), 16 PTE3/TACH1 (io), 17 PTE4/~{SS} (io), 18 PTE5/MISO (io), 19 PTE6/MOSI (io), 20 PTE7/SPSCK (io), 21 VSS (power), 22 VDD (power), 23 PTG0/KBD0 (io), 24 PTG1/KBD1 (io), 25 PTG2/KBD2 (io), 26 PTA0 (io), 27 PTA1 (io), 28 PTA2 (io), 29 PTA3 (io), 30 PTA4 (io), 31 PTA5 (io), 32 PTA6 (io), 33 PTA7 (io), 34 PTB0/ATD0 (io), 35 PTB1/ATD1 (io), 36 PTB2/ATD2 (io), 37 PTB3/ATD3 (io), 38 PTB4/ATD4 (io), 39 PTB5/ATD5 (io), 40 PTB6/ATD6 (io), 41 PTB7/ATD7 (io), 42 PTD0/ATD8 (io), 43 PTD1/ATD9 (io), 44 VDDAREF (power), 45 AVSS/VREFL (power), 46 PTD2/ATD10 (io), 47 PTD3/ATD11 (io), 48 PTH0/KBD3 (io), 49 PTH1/KBD4 (io), 50 PTD4/ATD12/TBCLK (io), 51 PTD5/ATD13 (io), 52 PTD6/ATD14/TACLK (io), 53 PTD7 (io), 54 VREFH (in), 55 VDDA (power), 56 VSSA (power), 57 CGMXFC, 58 OSC2, 59 OSC1, 60 PTC0 (io), 61 PTC1 (io), 62 PTC2/MCLK (io), 63 PTC3 (io), 64 PTC5 (io)

## MC68HC08AZ60ACFU
designator U?
8-Bit Microcontroller; Published: 17-Jan-2003; LatestRevisionDate: 13-Apr-2006; LatestRevisionNote: IPC-7351 Footprint Added.; DatasheetVersion: Rev 0.0, 2/2002; PackageVersion: rev2, 2000; PackageReference: 840B-01; Publisher: Altium Limited; PackageDescription: 64-Pin Quad Flat Pack 0.8 mm Pitch; Code_IPC: QFP80P1720X1720-64; ComponentLink1Description: Manufacturer Link; ComponentLink1URL: http://www.freescale.com/
footprint 840B-01_N (QFP, 64-Leads, Body 14x14mm, Pitch 0.8mm, IPC Medium Density)
footprint 840B-01_L (QFP, 64-Leads, Body 14x14mm, Pitch 0.8mm, IPC High Density)
footprint 840B-01_M (QFP, 64-Leads, Body 14x14mm, Pitch 0.8mm, IPC Low Density)
3D model MC68HC08-840B-01 (64-Pin Quad Flat Pack 0.8 mm Pitch)
pins: 1 PTC4 (io), 2 ~{IRQ} (in), 3 ~{RESET} (io), 4 PTF0/TACH2 (io), 5 PTF1/TACH3 (io), 6 PTF2/TACH4 (io), 7 PTF3/TACH5 (io), 8 PTF4/TBCH0 (io), 9 RXCAN (in), 10 TXCAN (out), 11 PTF5/TBCH1 (io), 12 PTF6 (io), 13 PTE0/TXD (io), 14 PTE1/RXD (io), 15 PTE2/TACH0 (io), 16 PTE3/TACH1 (io), 17 PTE4/~{SS} (io), 18 PTE5/MISO (io), 19 PTE6/MOSI (io), 20 PTE7/SPSCK (io), 21 VSS (power), 22 VDD (power), 23 PTG0/KBD0 (io), 24 PTG1/KBD1 (io), 25 PTG2/KBD2 (io), 26 PTA0 (io), 27 PTA1 (io), 28 PTA2 (io), 29 PTA3 (io), 30 PTA4 (io), 31 PTA5 (io), 32 PTA6 (io), 33 PTA7 (io), 34 PTB0/ATD0 (io), 35 PTB1/ATD1 (io), 36 PTB2/ATD2 (io), 37 PTB3/ATD3 (io), 38 PTB4/ATD4 (io), 39 PTB5/ATD5 (io), 40 PTB6/ATD6 (io), 41 PTB7/ATD7 (io), 42 PTD0/ATD8 (io), 43 PTD1/ATD9 (io), 44 VDDAREF (power), 45 AVSS/VREFL (power), 46 PTD2/ATD10 (io), 47 PTD3/ATD11 (io), 48 PTH0/KBD3 (io), 49 PTH1/KBD4 (io), 50 PTD4/ATD12/TBCLK (io), 51 PTD5/ATD13 (io), 52 PTD6/ATD14/TACLK (io), 53 PTD7 (io), 54 VREFH (in), 55 VDDA (power), 56 VSSA (power), 57 CGMXFC, 58 OSC2, 59 OSC1 (in), 60 PTC0 (io), 61 PTC1 (io), 62 PTC2/MCLK (io), 63 PTC3 (io), 64 PTC5 (io)

## MC68HC08AZ60AMFU
designator U?
8-Bit Microcontroller; Published: 17-Jan-2003; LatestRevisionDate: 13-Apr-2006; LatestRevisionNote: IPC-7351 Footprint Added.; DatasheetVersion: Rev 0.0, 2/2002; PackageVersion: rev2, 2000; PackageReference: 840B-01; Publisher: Altium Limited; PackageDescription: 64-Pin Quad Flat Pack 0.8 mm Pitch; Code_IPC: QFP80P1720X1720-64; ComponentLink1Description: Manufacturer Link; ComponentLink1URL: http://www.freescale.com/
footprint 840B-01_N (QFP, 64-Leads, Body 14x14mm, Pitch 0.8mm, IPC Medium Density)
footprint 840B-01_L (QFP, 64-Leads, Body 14x14mm, Pitch 0.8mm, IPC High Density)
footprint 840B-01_M (QFP, 64-Leads, Body 14x14mm, Pitch 0.8mm, IPC Low Density)
3D model MC68HC08-840B-01 (64-Pin Quad Flat Pack 0.8 mm Pitch)
pins: 1 PTC4 (io), 2 ~{IRQ} (in), 3 ~{RESET} (io), 4 PTF0/TACH2 (io), 5 PTF1/TACH3 (io), 6 PTF2/TACH4 (io), 7 PTF3/TACH5 (io), 8 PTF4/TBCH0 (io), 9 RXCAN (in), 10 TXCAN (out), 11 PTF5/TBCH1 (io), 12 PTF6 (io), 13 PTE0/TXD (io), 14 PTE1/RXD (io), 15 PTE2/TACH0 (io), 16 PTE3/TACH1 (io), 17 PTE4/~{SS} (io), 18 PTE5/MISO (io), 19 PTE6/MOSI (io), 20 PTE7/SPSCK (io), 21 VSS (power), 22 VDD (power), 23 PTG0/KBD0 (io), 24 PTG1/KBD1 (io), 25 PTG2/KBD2 (io), 26 PTA0 (io), 27 PTA1 (io), 28 PTA2 (io), 29 PTA3 (io), 30 PTA4 (io), 31 PTA5 (io), 32 PTA6 (io), 33 PTA7 (io), 34 PTB0/ATD0 (io), 35 PTB1/ATD1 (io), 36 PTB2/ATD2 (io), 37 PTB3/ATD3 (io), 38 PTB4/ATD4 (io), 39 PTB5/ATD5 (io), 40 PTB6/ATD6 (io), 41 PTB7/ATD7 (io), 42 PTD0/ATD8 (io), 43 PTD1/ATD9 (io), 44 VDDAREF (power), 45 AVSS/VREFL (power), 46 PTD2/ATD10 (io), 47 PTD3/ATD11 (io), 48 PTH0/KBD3 (io), 49 PTH1/KBD4 (io), 50 PTD4/ATD12/TBCLK (io), 51 PTD5/ATD13 (io), 52 PTD6/ATD14/TACLK (io), 53 PTD7 (io), 54 VREFH (in), 55 VDDA (power), 56 VSSA (power), 57 CGMXFC, 58 OSC2, 59 OSC1 (in), 60 PTC0 (io), 61 PTC1 (io), 62 PTC2/MCLK (io), 63 PTC3 (io), 64 PTC5 (io)

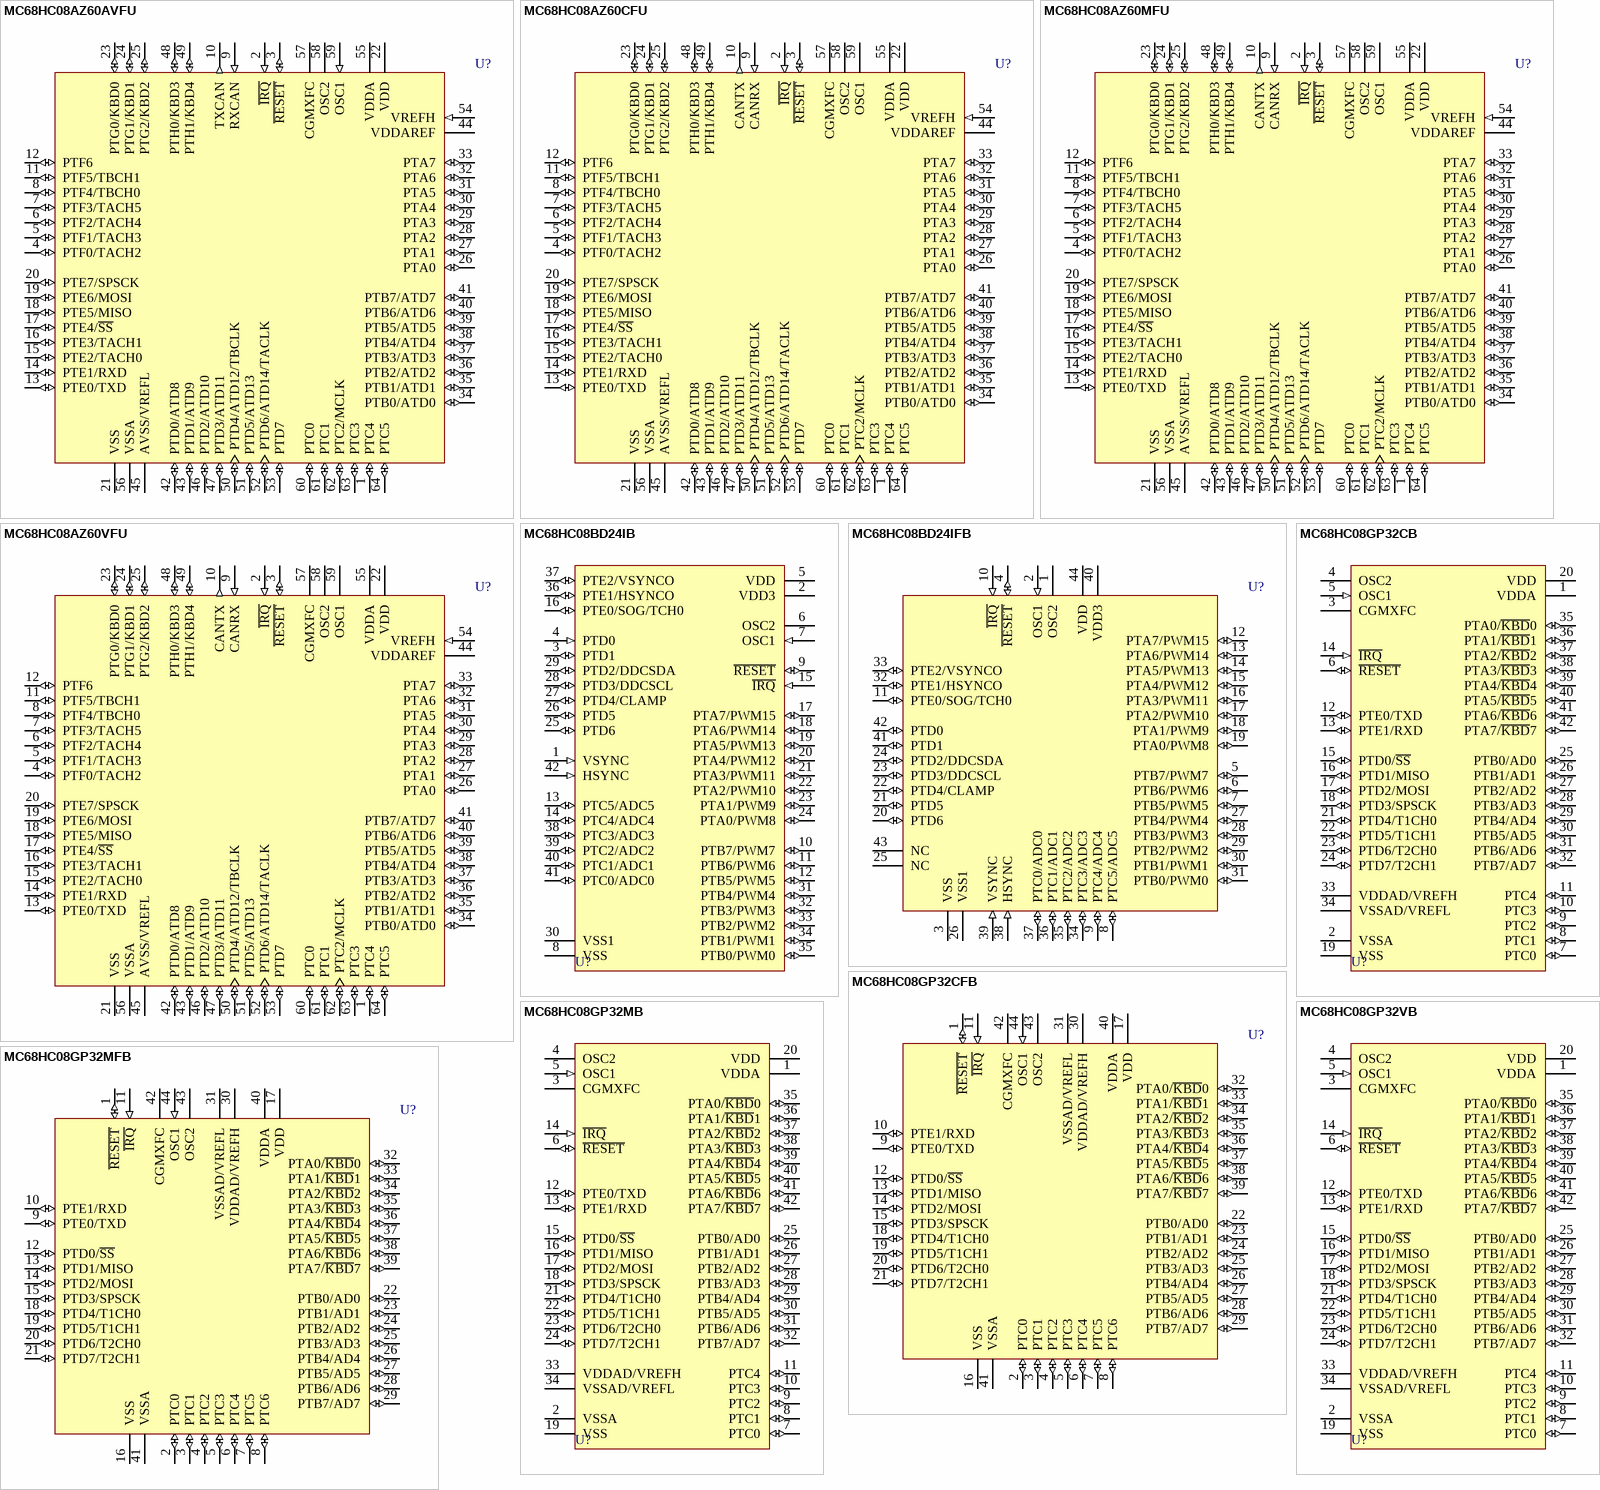
[diagram p16: symbols MC68HC08AZ60AVFU to MC68HC08GP32VB]

## MC68HC08AZ60AVFU
designator U?
8-Bit Microcontroller; Published: 17-Jan-2003; LatestRevisionDate: 13-Apr-2006; LatestRevisionNote: IPC-7351 Footprint Added.; DatasheetVersion: Rev 0.0, 2/2002; PackageVersion: rev2, 2000; PackageReference: 840B-01; Publisher: Altium Limited; PackageDescription: 64-Pin Quad Flat Pack 0.8 mm Pitch; Code_IPC: QFP80P1720X1720-64; ComponentLink1Description: Manufacturer Link; ComponentLink1URL: http://www.freescale.com/
footprint 840B-01_N (QFP, 64-Leads, Body 14x14mm, Pitch 0.8mm, IPC Medium Density)
footprint 840B-01_L (QFP, 64-Leads, Body 14x14mm, Pitch 0.8mm, IPC High Density)
footprint 840B-01_M (QFP, 64-Leads, Body 14x14mm, Pitch 0.8mm, IPC Low Density)
3D model MC68HC08-840B-01 (64-Pin Quad Flat Pack 0.8 mm Pitch)
pins: 1 PTC4 (io), 2 ~{IRQ} (in), 3 ~{RESET} (io), 4 PTF0/TACH2 (io), 5 PTF1/TACH3 (io), 6 PTF2/TACH4 (io), 7 PTF3/TACH5 (io), 8 PTF4/TBCH0 (io), 9 RXCAN (in), 10 TXCAN (out), 11 PTF5/TBCH1 (io), 12 PTF6 (io), 13 PTE0/TXD (io), 14 PTE1/RXD (io), 15 PTE2/TACH0 (io), 16 PTE3/TACH1 (io), 17 PTE4/~{SS} (io), 18 PTE5/MISO (io), 19 PTE6/MOSI (io), 20 PTE7/SPSCK (io), 21 VSS (power), 22 VDD (power), 23 PTG0/KBD0 (io), 24 PTG1/KBD1 (io), 25 PTG2/KBD2 (io), 26 PTA0 (io), 27 PTA1 (io), 28 PTA2 (io), 29 PTA3 (io), 30 PTA4 (io), 31 PTA5 (io), 32 PTA6 (io), 33 PTA7 (io), 34 PTB0/ATD0 (io), 35 PTB1/ATD1 (io), 36 PTB2/ATD2 (io), 37 PTB3/ATD3 (io), 38 PTB4/ATD4 (io), 39 PTB5/ATD5 (io), 40 PTB6/ATD6 (io), 41 PTB7/ATD7 (io), 42 PTD0/ATD8 (io), 43 PTD1/ATD9 (io), 44 VDDAREF (power), 45 AVSS/VREFL (power), 46 PTD2/ATD10 (io), 47 PTD3/ATD11 (io), 48 PTH0/KBD3 (io), 49 PTH1/KBD4 (io), 50 PTD4/ATD12/TBCLK (io), 51 PTD5/ATD13 (io), 52 PTD6/ATD14/TACLK (io), 53 PTD7 (io), 54 VREFH (in), 55 VDDA (power), 56 VSSA (power), 57 CGMXFC, 58 OSC2, 59 OSC1 (in), 60 PTC0 (io), 61 PTC1 (io), 62 PTC2/MCLK (io), 63 PTC3 (io), 64 PTC5 (io)

## MC68HC08AZ60CFU
designator U?
8-Bit Microcontroller; Published: 17-Jan-2003; LatestRevisionDate: 13-Apr-2006; LatestRevisionNote: IPC-7351 Footprint Added.; DatasheetVersion: Rev 1, Mar-2000; PackageVersion: rev2, 2000; PackageReference: 840B-01; Publisher: Altium Limited; PackageDescription: 64-Pin Quad Flat Pack 0.8 mm Pitch; Code_IPC: QFP80P1720X1720-64; ComponentLink1Description: Manufacturer Link; ComponentLink1URL: http://www.freescale.com/
footprint 840B-01_N (QFP, 64-Leads, Body 14x14mm, Pitch 0.8mm, IPC Medium Density)
footprint 840B-01_L (QFP, 64-Leads, Body 14x14mm, Pitch 0.8mm, IPC High Density)
footprint 840B-01_M (QFP, 64-Leads, Body 14x14mm, Pitch 0.8mm, IPC Low Density)
3D model MC68HC08-840B-01 (64-Pin Quad Flat Pack 0.8 mm Pitch)
pins: 1 PTC4 (io), 2 ~{IRQ} (in), 3 ~{RESET} (io), 4 PTF0/TACH2 (io), 5 PTF1/TACH3 (io), 6 PTF2/TACH4 (io), 7 PTF3/TACH5 (io), 8 PTF4/TBCH0 (io), 9 CANRX (in), 10 CANTX (out), 11 PTF5/TBCH1 (io), 12 PTF6 (io), 13 PTE0/TXD (io), 14 PTE1/RXD (io), 15 PTE2/TACH0 (io), 16 PTE3/TACH1 (io), 17 PTE4/~{SS} (io), 18 PTE5/MISO (io), 19 PTE6/MOSI (io), 20 PTE7/SPSCK (io), 21 VSS (power), 22 VDD (power), 23 PTG0/KBD0 (io), 24 PTG1/KBD1 (io), 25 PTG2/KBD2 (io), 26 PTA0 (io), 27 PTA1 (io), 28 PTA2 (io), 29 PTA3 (io), 30 PTA4 (io), 31 PTA5 (io), 32 PTA6 (io), 33 PTA7 (io), 34 PTB0/ATD0 (io), 35 PTB1/ATD1 (io), 36 PTB2/ATD2 (io), 37 PTB3/ATD3 (io), 38 PTB4/ATD4 (io), 39 PTB5/ATD5 (io), 40 PTB6/ATD6 (io), 41 PTB7/ATD7 (io), 42 PTD0/ATD8 (io), 43 PTD1/ATD9 (io), 44 VDDAREF (power), 45 AVSS/VREFL (power), 46 PTD2/ATD10 (io), 47 PTD3/ATD11 (io), 48 PTH0/KBD3 (io), 49 PTH1/KBD4 (io), 50 PTD4/ATD12/TBCLK (io), 51 PTD5/ATD13 (io), 52 PTD6/ATD14/TACLK (io), 53 PTD7 (io), 54 VREFH (in), 55 VDDA (power), 56 VSSA (power), 57 CGMXFC, 58 OSC2, 59 OSC1, 60 PTC0 (io), 61 PTC1 (io), 62 PTC2/MCLK (io), 63 PTC3 (io), 64 PTC5 (io)

## MC68HC08AZ60MFU
designator U?
8-Bit Microcontroller; Published: 17-Jan-2003; LatestRevisionDate: 13-Apr-2006; LatestRevisionNote: IPC-7351 Footprint Added.; DatasheetVersion: Rev 1, Mar-2000; PackageVersion: rev2, 2000; PackageReference: 840B-01; Publisher: Altium Limited; PackageDescription: 64-Pin Quad Flat Pack 0.8 mm Pitch; Code_IPC: QFP80P1720X1720-64; ComponentLink1Description: Manufacturer Link; ComponentLink1URL: http://www.freescale.com/
footprint 840B-01_N (QFP, 64-Leads, Body 14x14mm, Pitch 0.8mm, IPC Medium Density)
footprint 840B-01_L (QFP, 64-Leads, Body 14x14mm, Pitch 0.8mm, IPC High Density)
footprint 840B-01_M (QFP, 64-Leads, Body 14x14mm, Pitch 0.8mm, IPC Low Density)
3D model MC68HC08-840B-01 (64-Pin Quad Flat Pack 0.8 mm Pitch)
pins: 1 PTC4 (io), 2 ~{IRQ} (in), 3 ~{RESET} (io), 4 PTF0/TACH2 (io), 5 PTF1/TACH3 (io), 6 PTF2/TACH4 (io), 7 PTF3/TACH5 (io), 8 PTF4/TBCH0 (io), 9 CANRX (in), 10 CANTX (out), 11 PTF5/TBCH1 (io), 12 PTF6 (io), 13 PTE0/TXD (io), 14 PTE1/RXD (io), 15 PTE2/TACH0 (io), 16 PTE3/TACH1 (io), 17 PTE4/~{SS} (io), 18 PTE5/MISO (io), 19 PTE6/MOSI (io), 20 PTE7/SPSCK (io), 21 VSS (power), 22 VDD (power), 23 PTG0/KBD0 (io), 24 PTG1/KBD1 (io), 25 PTG2/KBD2 (io), 26 PTA0 (io), 27 PTA1 (io), 28 PTA2 (io), 29 PTA3 (io), 30 PTA4 (io), 31 PTA5 (io), 32 PTA6 (io), 33 PTA7 (io), 34 PTB0/ATD0 (io), 35 PTB1/ATD1 (io), 36 PTB2/ATD2 (io), 37 PTB3/ATD3 (io), 38 PTB4/ATD4 (io), 39 PTB5/ATD5 (io), 40 PTB6/ATD6 (io), 41 PTB7/ATD7 (io), 42 PTD0/ATD8 (io), 43 PTD1/ATD9 (io), 44 VDDAREF (power), 45 AVSS/VREFL (power), 46 PTD2/ATD10 (io), 47 PTD3/ATD11 (io), 48 PTH0/KBD3 (io), 49 PTH1/KBD4 (io), 50 PTD4/ATD12/TBCLK (io), 51 PTD5/ATD13 (io), 52 PTD6/ATD14/TACLK (io), 53 PTD7 (io), 54 VREFH (in), 55 VDDA (power), 56 VSSA (power), 57 CGMXFC, 58 OSC2, 59 OSC1, 60 PTC0 (io), 61 PTC1 (io), 62 PTC2/MCLK (io), 63 PTC3 (io), 64 PTC5 (io)

## MC68HC08AZ60VFU
designator U?
8-Bit Microcontroller; Published: 17-Jan-2003; LatestRevisionDate: 13-Apr-2006; LatestRevisionNote: IPC-7351 Footprint Added.; DatasheetVersion: Rev 1, Mar-2000; PackageVersion: rev2, 2000; PackageReference: 840B-01; Publisher: Altium Limited; PackageDescription: 64-Pin Quad Flat Pack 0.8 mm Pitch; Code_IPC: QFP80P1720X1720-64; ComponentLink1Description: Manufacturer Link; ComponentLink1URL: http://www.freescale.com/
footprint 840B-01_N (QFP, 64-Leads, Body 14x14mm, Pitch 0.8mm, IPC Medium Density)
footprint 840B-01_L (QFP, 64-Leads, Body 14x14mm, Pitch 0.8mm, IPC High Density)
footprint 840B-01_M (QFP, 64-Leads, Body 14x14mm, Pitch 0.8mm, IPC Low Density)
3D model MC68HC08-840B-01 (64-Pin Quad Flat Pack 0.8 mm Pitch)
pins: 1 PTC4 (io), 2 ~{IRQ} (in), 3 ~{RESET} (io), 4 PTF0/TACH2 (io), 5 PTF1/TACH3 (io), 6 PTF2/TACH4 (io), 7 PTF3/TACH5 (io), 8 PTF4/TBCH0 (io), 9 CANRX (in), 10 CANTX (out), 11 PTF5/TBCH1 (io), 12 PTF6 (io), 13 PTE0/TXD (io), 14 PTE1/RXD (io), 15 PTE2/TACH0 (io), 16 PTE3/TACH1 (io), 17 PTE4/~{SS} (io), 18 PTE5/MISO (io), 19 PTE6/MOSI (io), 20 PTE7/SPSCK (io), 21 VSS (power), 22 VDD (power), 23 PTG0/KBD0 (io), 24 PTG1/KBD1 (io), 25 PTG2/KBD2 (io), 26 PTA0 (io), 27 PTA1 (io), 28 PTA2 (io), 29 PTA3 (io), 30 PTA4 (io), 31 PTA5 (io), 32 PTA6 (io), 33 PTA7 (io), 34 PTB0/ATD0 (io), 35 PTB1/ATD1 (io), 36 PTB2/ATD2 (io), 37 PTB3/ATD3 (io), 38 PTB4/ATD4 (io), 39 PTB5/ATD5 (io), 40 PTB6/ATD6 (io), 41 PTB7/ATD7 (io), 42 PTD0/ATD8 (io), 43 PTD1/ATD9 (io), 44 VDDAREF (power), 45 AVSS/VREFL (power), 46 PTD2/ATD10 (io), 47 PTD3/ATD11 (io), 48 PTH0/KBD3 (io), 49 PTH1/KBD4 (io), 50 PTD4/ATD12/TBCLK (io), 51 PTD5/ATD13 (io), 52 PTD6/ATD14/TACLK (io), 53 PTD7 (io), 54 VREFH (in), 55 VDDA (power), 56 VSSA (power), 57 CGMXFC, 58 OSC2, 59 OSC1, 60 PTC0 (io), 61 PTC1 (io), 62 PTC2/MCLK (io), 63 PTC3 (io), 64 PTC5 (io)

## MC68HC08BD24IB
designator U?
8-Bit Microcontroller; Note: PDT0, PDT1, OSC1 and OSC2 are 3.3V pins.; Note: Any unused inputs & I/O ports should be tied to an appropriate logic level (either VDD or VSS; VDD3 or VSS for 3.3V pins).  Although the I/O ports of the MC68HC08BD24 do not require termination, termination is recommended to reduce the possibility of static damage.; Published: 17-Jan-2003; LatestRevisionDate: 06-Jun-2005; LatestRevisionNote: Stylized 3D Model Added.; DatasheetVersion: Rev 1.0, 2000; PackageVersion: rev5, Apr-2002; PackageReference: 858-01; Publisher: Altium Limited; PackageDescription: DIP, Plastic; 42 Leads; Row Spacing 15.24 mm; Pitch 1.778 mm; ComponentLink1Description: Manufacturer Link; ComponentLink1URL: http://www.freescale.com/
footprint 858-01 (DIP, Plastic; 42 Leads; Row Spacing 15.24 mm; Pitch 1.778 mm)
3D model 858-01 (DIP, Plastic; 42 Leads; Row Spacing 15.24 mm; Pitch 1.778 mm)
pins: 1 VSYNC (in), 2 VDD3 (power), 3 PTD1 (io), 4 PTD0 (in), 5 VDD (power), 6 OSC2, 7 OSC1 (in), 8 VSS (power), 9 ~{RESET} (io), 10 PTB7/PWM7 (io), 11 PTB6/PWM6 (io), 12 PTB5/PWM5 (io), 13 PTC5/ADC5 (io), 14 PTC4/ADC4 (io), 15 ~{IRQ} (in), 16 PTE0/SOG/TCH0 (io), 17 PTA7/PWM15 (io), 18 PTA6/PWM14 (io), 19 PTA5/PWM13 (io), 20 PTA4/PWM12 (io), 21 PTA3/PWM11 (io), 22 PTA2/PWM10 (io), 23 PTA1/PWM9 (io), 24 PTA0/PWM8 (io), 25 PTD6 (io), 26 PTD5 (io), 27 PTD4/CLAMP (io), 28 PTD3/DDCSCL (io), 29 PTD2/DDCSDA (io), 30 VSS1 (power), 31 PTB4/PWM4 (io), 32 PTB3/PWM3 (io), 33 PTB2/PWM2 (io), 34 PTB1/PWM1 (io), 35 PTB0/PWM0 (io), 36 PTE1/HSYNCO (io), 37 PTE2/VSYNCO (io), 38 PTC3/ADC3 (io), 39 PTC2/ADC2 (io), 40 PTC1/ADC1 (io), 41 PTC0/ADC0 (io), 42 HSYNC (in)

## MC68HC08BD24IFB
designator U?
8-Bit Microcontroller; Note: PDT0, PDT1, OSC1 and OSC2 are 3.3V pins.; Note: Any unused inputs & I/O ports should be tied to an appropriate logic level (either VDD or VSS; VDD3 or VSS for 3.3V pins).  Although the I/O ports of the MC68HC08BD24 do not require termination, termination is recommended to reduce the possibility of static damage.; Published: 17-Jan-2003; LatestRevisionDate: 13-Apr-2006; LatestRevisionNote: IPC-7351 Footprint Added.; DatasheetVersion: Rev 1.0, 2000; PackageVersion: rev1.0, 2000; PackageReference: 824E-02; Publisher: Altium Limited; PackageDescription: 44-Pin Plastic Quad Flat Pack 0.8 mm Pitch; Code_JEDEC: MS-022-AB; Code_IPC: QFP80P1320X1320-44; ComponentLink1Description: Manufacturer Link; ComponentLink1URL: http://www.freescale.com/
footprint 824E-02_N (QFP, 44-Leads, Body 10x10mm, Pitch 0.8mm, IPC Medium Density)
footprint 824E-02_L (QFP, 44-Leads, Body 10x10mm, Pitch 0.8mm, IPC High Density)
footprint 824E-02_M (QFP, 44-Leads, Body 10x10mm, Pitch 0.8mm, IPC Low Density)
3D model MC68HC08-824A-01 (44-Pin Plastic Quad Flat Pack 0.8 mm Pitch)
pins: 1 OSC2, 2 OSC1 (in), 3 VSS (power), 4 ~{RESET} (io), 5 PTB7/PWM7 (io), 6 PTB6/PWM6 (io), 7 PTB5/PWM5 (io), 8 PTC5/ADC5 (io), 9 PTC4/ADC4 (io), 10 ~{IRQ} (in), 11 PTE0/SOG/TCH0 (io), 12 PTA7/PWM15 (io), 13 PTA6/PWM14 (io), 14 PTA5/PWM13 (io), 15 PTA4/PWM12 (io), 16 PTA3/PWM11 (io), 17 PTA2/PWM10 (io), 18 PTA1/PWM9 (io), 19 PTA0/PWM8 (io), 20 PTD6 (io), 21 PTD5 (io), 22 PTD4/CLAMP (io), 23 PTD3/DDCSCL (io), 24 PTD2/DDCSDA (io), 25 NC, 26 VSS1 (power), 27 PTB4/PWM4 (io), 28 PTB3/PWM3 (io), 29 PTB2/PWM2 (io), 30 PTB1/PWM1 (io), 31 PTB0/PWM0 (io), 32 PTE1/HSYNCO (io), 33 PTE2/VSYNCO (io), 34 PTC3/ADC3 (io), 35 PTC2/ADC2 (io), 36 PTC1/ADC1 (io), 37 PTC0/ADC0 (io), 38 HSYNC (in), 39 VSYNC (in), 40 VDD3 (power), 41 PTD1 (io), 42 PTD0 (io), 43 NC, 44 VDD (power)

## MC68HC08GP32CB
designator U?
8-Bit Microcontroller; Note: Any unused inputs and I/O ports should be tied to an appropriate logic level (either VDD or VSS ). Although the I/O ports of the MC68HC908GP32 do not require termination, termination is recommended to reduce the possibility of static damage.; Published: 17-Jan-2003; LatestRevisionDate: 06-Jun-2005; LatestRevisionNote: Stylized 3D Model Added.; DatasheetVersion: Rev 6, 8/2002; PackageVersion: rev5, Apr-2002; PackageReference: 858-01; Publisher: Altium Limited; PackageDescription: DIP, Plastic; 42 Leads; Row Spacing 15.24 mm; Pitch 1.778 mm; ComponentLink1Description: Manufacturer Link; ComponentLink1URL: http://www.freescale.com/; ComponentLink2Description: Datasheet; ComponentLink2URL: http://www.freescale.com/files/microcontrollers/doc/data_sheet/MC68HC908GP32.pdf
footprint 858-01 (DIP, Plastic; 42 Leads; Row Spacing 15.24 mm; Pitch 1.778 mm)
3D model 858-01 (DIP, Plastic; 42 Leads; Row Spacing 15.24 mm; Pitch 1.778 mm)
pins: 1 VDDA (power), 2 VSSA (power), 3 CGMXFC, 4 OSC2, 5 OSC1 (in), 6 ~{RESET} (io), 7 PTC0 (io), 8 PTC1 (io), 9 PTC2 (io), 10 PTC3 (io), 11 PTC4 (io), 12 PTE0/TXD (io), 13 PTE1/RXD (io), 14 ~{IRQ} (in), 15 PTD0/~{SS} (io), 16 PTD1/MISO (io), 17 PTD2/MOSI (io), 18 PTD3/SPSCK (io), 19 VSS (power), 20 VDD (power), 21 PTD4/T1CH0 (io), 22 PTD5/T1CH1 (io), 23 PTD6/T2CH0 (io), 24 PTD7/T2CH1 (io), 25 PTB0/AD0 (io), 26 PTB1/AD1 (io), 27 PTB2/AD2 (io), 28 PTB3/AD3 (io), 29 PTB4/AD4 (io), 30 PTB5/AD5 (io), 31 PTB6/AD6 (io), 32 PTB7/AD7 (io), 33 VDDAD/VREFH (power), 34 VSSAD/VREFL (power), 35 PTA0/~{KBD}0 (io), 36 PTA1/~{KBD}1 (io), 37 PTA2/~{KBD}2 (io), 38 PTA3/~{KBD}3 (io), 39 PTA4/~{KBD}4 (io), 40 PTA5/~{KBD}5 (io), 41 PTA6/~{KBD}6 (io), 42 PTA7/~{KBD}7 (io)

## MC68HC08GP32CFB
designator U?
8-Bit Microcontroller; Note: Any unused inputs and I/O ports should be tied to an appropriate logic level (either VDD or VSS ). Although the I/O ports of the MC68HC908GP32 do not require termination, termination is recommended to reduce the possibility of static damage.; Published: 17-Jan-2003; LatestRevisionDate: 13-Apr-2006; LatestRevisionNote: IPC-7351 Footprint Added.; DatasheetVersion: Rev 6, 8/2002; PackageVersion: rev5, Apr-2002; PackageReference: 824A-01; Publisher: Altium Limited; PackageDescription: 44-Pin Quad Flat Pack 0.8 mm Pitch; Code_JEDEC: MS-022-AB; Code_IPC: QFP80P1320X1320-44; ComponentLink1Description: Manufacturer Link; ComponentLink1URL: http://www.freescale.com/; ComponentLink2Description: Datasheet; ComponentLink2URL: http://www.freescale.com/files/microcontrollers/doc/data_sheet/MC68HC908GP32.pdf
footprint 824A-01_N (QFP, 44-Leads, Body 10x10mm, Pitch 0.8mm, IPC Medium Density)
footprint 824A-01_L (QFP, 44-Leads, Body 10x10mm, Pitch 0.8mm, IPC High Density)
footprint 824A-01_M (QFP, 44-Leads, Body 10x10mm, Pitch 0.8mm, IPC Low Density)
3D model MC68HC08-824A-01 (44-Pin Quad Flat Pack 0.8 mm Pitch)
pins: 1 ~{RESET} (io), 2 PTC0 (io), 3 PTC1 (io), 4 PTC2 (io), 5 PTC3 (io), 6 PTC4 (io), 7 PTC5 (io), 8 PTC6 (io), 9 PTE0/TXD (io), 10 PTE1/RXD (io), 11 ~{IRQ} (in), 12 PTD0/~{SS} (io), 13 PTD1/MISO (io), 14 PTD2/MOSI (io), 15 PTD3/SPSCK (io), 16 VSS (power), 17 VDD (power), 18 PTD4/T1CH0 (io), 19 PTD5/T1CH1 (io), 20 PTD6/T2CH0 (io), 21 PTD7/T2CH1 (io), 22 PTB0/AD0 (io), 23 PTB1/AD1 (io), 24 PTB2/AD2 (io), 25 PTB3/AD3 (io), 26 PTB4/AD4 (io), 27 PTB5/AD5 (io), 28 PTB6/AD6 (io), 29 PTB7/AD7 (io), 30 VDDAD/VREFH (power), 31 VSSAD/VREFL (power), 32 PTA0/~{KBD}0 (io), 33 PTA1/~{KBD}1 (io), 34 PTA2/~{KBD}2 (io), 35 PTA3/~{KBD}3 (io), 36 PTA4/~{KBD}4 (io), 37 PTA5/~{KBD}5 (io), 38 PTA6/~{KBD}6 (io), 39 PTA7/~{KBD}7 (io), 40 VDDA (power), 41 VSSA (power), 42 CGMXFC, 43 OSC2, 44 OSC1 (in)

## MC68HC08GP32MB
designator U?
8-Bit Microcontroller; Note: Any unused inputs and I/O ports should be tied to an appropriate logic level (either VDD or VSS ). Although the I/O ports of the MC68HC908GP32 do not require termination, termination is recommended to reduce the possibility of static damage.; Published: 17-Jan-2003; LatestRevisionDate: 06-Jun-2005; LatestRevisionNote: Stylized 3D Model Added.; DatasheetVersion: Rev 6, 8/2002; PackageVersion: rev5, Apr-2002; PackageReference: 858-01; Publisher: Altium Limited; PackageDescription: DIP, Plastic; 42 Leads; Row Spacing 15.24 mm; Pitch 1.778 mm; ComponentLink1Description: Manufacturer Link; ComponentLink1URL: http://www.freescale.com/; ComponentLink2Description: Datasheet; ComponentLink2URL: http://www.freescale.com/files/microcontrollers/doc/data_sheet/MC68HC908GP32.pdf
footprint 858-01 (DIP, Plastic; 42 Leads; Row Spacing 15.24 mm; Pitch 1.778 mm)
3D model 858-01 (DIP, Plastic; 42 Leads; Row Spacing 15.24 mm; Pitch 1.778 mm)
pins: 1 VDDA (power), 2 VSSA (power), 3 CGMXFC, 4 OSC2, 5 OSC1 (in), 6 ~{RESET} (io), 7 PTC0 (io), 8 PTC1 (io), 9 PTC2 (io), 10 PTC3 (io), 11 PTC4 (io), 12 PTE0/TXD (io), 13 PTE1/RXD (io), 14 ~{IRQ} (in), 15 PTD0/~{SS} (io), 16 PTD1/MISO (io), 17 PTD2/MOSI (io), 18 PTD3/SPSCK (io), 19 VSS (power), 20 VDD (power), 21 PTD4/T1CH0 (io), 22 PTD5/T1CH1 (io), 23 PTD6/T2CH0 (io), 24 PTD7/T2CH1 (io), 25 PTB0/AD0 (io), 26 PTB1/AD1 (io), 27 PTB2/AD2 (io), 28 PTB3/AD3 (io), 29 PTB4/AD4 (io), 30 PTB5/AD5 (io), 31 PTB6/AD6 (io), 32 PTB7/AD7 (io), 33 VDDAD/VREFH (power), 34 VSSAD/VREFL (power), 35 PTA0/~{KBD}0 (io), 36 PTA1/~{KBD}1 (io), 37 PTA2/~{KBD}2 (io), 38 PTA3/~{KBD}3 (io), 39 PTA4/~{KBD}4 (io), 40 PTA5/~{KBD}5 (io), 41 PTA6/~{KBD}6 (io), 42 PTA7/~{KBD}7 (io)

## MC68HC08GP32MFB
designator U?
8-Bit Microcontroller; Note: Any unused inputs and I/O ports should be tied to an appropriate logic level (either VDD or VSS ). Although the I/O ports of the MC68HC908GP32 do not require termination, termination is recommended to reduce the possibility of static damage.; Published: 17-Jan-2003; LatestRevisionDate: 13-Apr-2006; LatestRevisionNote: IPC-7351 Footprint Added.; DatasheetVersion: Rev 6, 8/2002; PackageVersion: rev5, Apr-2002; PackageReference: 824A-01; Publisher: Altium Limited; PackageDescription: 44-Pin Quad Flat Pack 0.8 mm Pitch; Code_JEDEC: MS-022-AB; Code_IPC: QFP80P1320X1320-44; ComponentLink1Description: Manufacturer Link; ComponentLink1URL: http://www.freescale.com/; ComponentLink2Description: Datasheet; ComponentLink2URL: http://www.freescale.com/files/microcontrollers/doc/data_sheet/MC68HC908GP32.pdf
footprint 824A-01_N (QFP, 44-Leads, Body 10x10mm, Pitch 0.8mm, IPC Medium Density)
footprint 824A-01_L (QFP, 44-Leads, Body 10x10mm, Pitch 0.8mm, IPC High Density)
footprint 824A-01_M (QFP, 44-Leads, Body 10x10mm, Pitch 0.8mm, IPC Low Density)
3D model MC68HC08-824A-01 (44-Pin Quad Flat Pack 0.8 mm Pitch)
pins: 1 ~{RESET} (io), 2 PTC0 (io), 3 PTC1 (io), 4 PTC2 (io), 5 PTC3 (io), 6 PTC4 (io), 7 PTC5 (io), 8 PTC6 (io), 9 PTE0/TXD (io), 10 PTE1/RXD (io), 11 ~{IRQ} (in), 12 PTD0/~{SS} (io), 13 PTD1/MISO (io), 14 PTD2/MOSI (io), 15 PTD3/SPSCK (io), 16 VSS (power), 17 VDD (power), 18 PTD4/T1CH0 (io), 19 PTD5/T1CH1 (io), 20 PTD6/T2CH0 (io), 21 PTD7/T2CH1 (io), 22 PTB0/AD0 (io), 23 PTB1/AD1 (io), 24 PTB2/AD2 (io), 25 PTB3/AD3 (io), 26 PTB4/AD4 (io), 27 PTB5/AD5 (io), 28 PTB6/AD6 (io), 29 PTB7/AD7 (io), 30 VDDAD/VREFH (power), 31 VSSAD/VREFL (power), 32 PTA0/~{KBD}0 (io), 33 PTA1/~{KBD}1 (io), 34 PTA2/~{KBD}2 (io), 35 PTA3/~{KBD}3 (io), 36 PTA4/~{KBD}4 (io), 37 PTA5/~{KBD}5 (io), 38 PTA6/~{KBD}6 (io), 39 PTA7/~{KBD}7 (io), 40 VDDA (power), 41 VSSA (power), 42 CGMXFC, 43 OSC2, 44 OSC1 (in)

## MC68HC08GP32VB
designator U?
8-Bit Microcontroller; Note: Any unused inputs and I/O ports should be tied to an appropriate logic level (either VDD or VSS ). Although the I/O ports of the MC68HC908GP32 do not require termination, termination is recommended to reduce the possibility of static damage.; Published: 17-Jan-2003; LatestRevisionDate: 06-Jun-2005; LatestRevisionNote: Stylized 3D Model Added.; DatasheetVersion: Rev 6, 8/2002; PackageVersion: rev5, Apr-2002; PackageReference: 858-01; Publisher: Altium Limited; PackageDescription: DIP, Plastic; 42 Leads; Row Spacing 15.24 mm; Pitch 1.778 mm; ComponentLink1Description: Manufacturer Link; ComponentLink1URL: http://www.freescale.com/; ComponentLink2Description: Datasheet; ComponentLink2URL: http://www.freescale.com/files/microcontrollers/doc/data_sheet/MC68HC908GP32.pdf
footprint 858-01 (DIP, Plastic; 42 Leads; Row Spacing 15.24 mm; Pitch 1.778 mm)
3D model 858-01 (DIP, Plastic; 42 Leads; Row Spacing 15.24 mm; Pitch 1.778 mm)
pins: 1 VDDA (power), 2 VSSA (power), 3 CGMXFC, 4 OSC2, 5 OSC1 (in), 6 ~{RESET} (io), 7 PTC0 (io), 8 PTC1 (io), 9 PTC2 (io), 10 PTC3 (io), 11 PTC4 (io), 12 PTE0/TXD (io), 13 PTE1/RXD (io), 14 ~{IRQ} (in), 15 PTD0/~{SS} (io), 16 PTD1/MISO (io), 17 PTD2/MOSI (io), 18 PTD3/SPSCK (io), 19 VSS (power), 20 VDD (power), 21 PTD4/T1CH0 (io), 22 PTD5/T1CH1 (io), 23 PTD6/T2CH0 (io), 24 PTD7/T2CH1 (io), 25 PTB0/AD0 (io), 26 PTB1/AD1 (io), 27 PTB2/AD2 (io), 28 PTB3/AD3 (io), 29 PTB4/AD4 (io), 30 PTB5/AD5 (io), 31 PTB6/AD6 (io), 32 PTB7/AD7 (io), 33 VDDAD/VREFH (power), 34 VSSAD/VREFL (power), 35 PTA0/~{KBD}0 (io), 36 PTA1/~{KBD}1 (io), 37 PTA2/~{KBD}2 (io), 38 PTA3/~{KBD}3 (io), 39 PTA4/~{KBD}4 (io), 40 PTA5/~{KBD}5 (io), 41 PTA6/~{KBD}6 (io), 42 PTA7/~{KBD}7 (io)

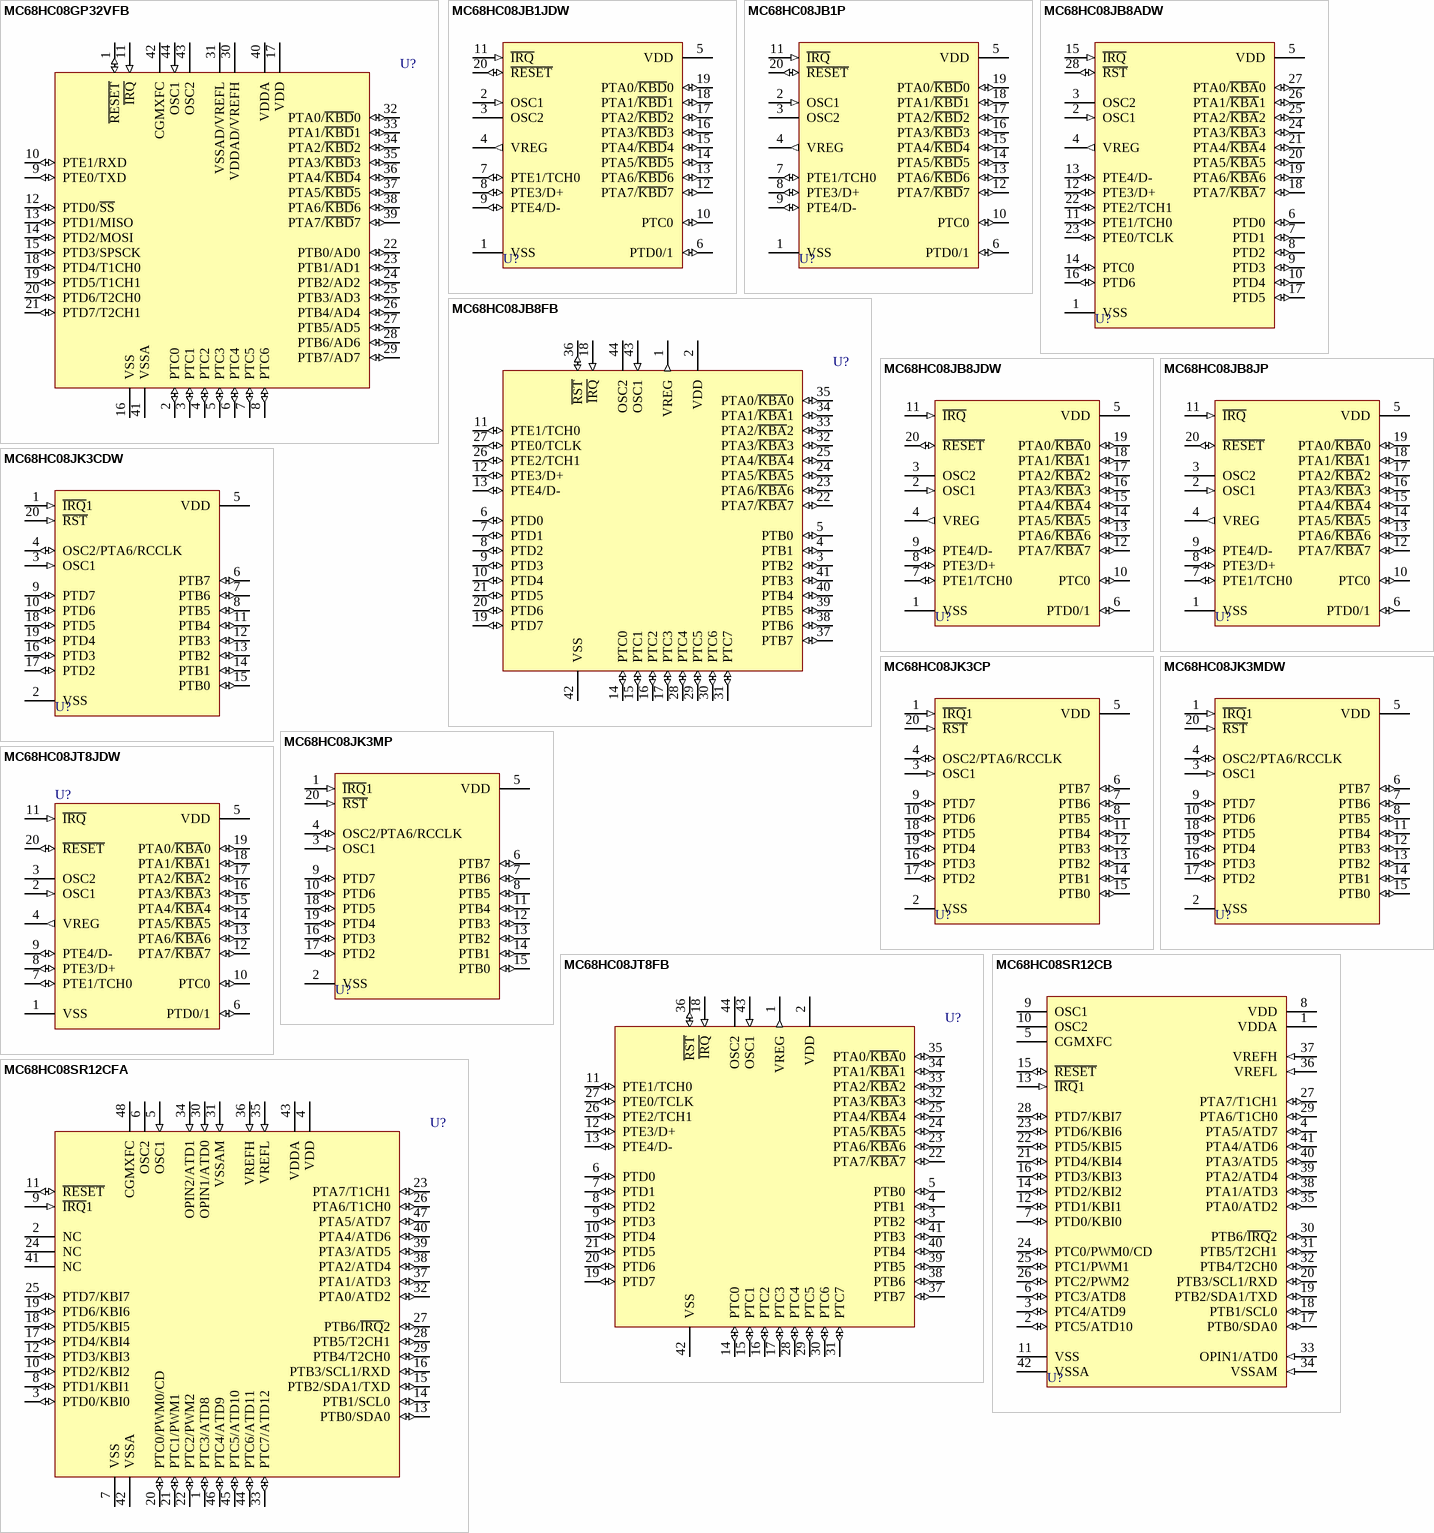
[diagram p17: symbols MC68HC08GP32VFB to MC68HC08SR12CFA]